# Altium schematic symbol library MCU_ST_STM32F3.SchLib: 93 symbols (part 2 of 3)
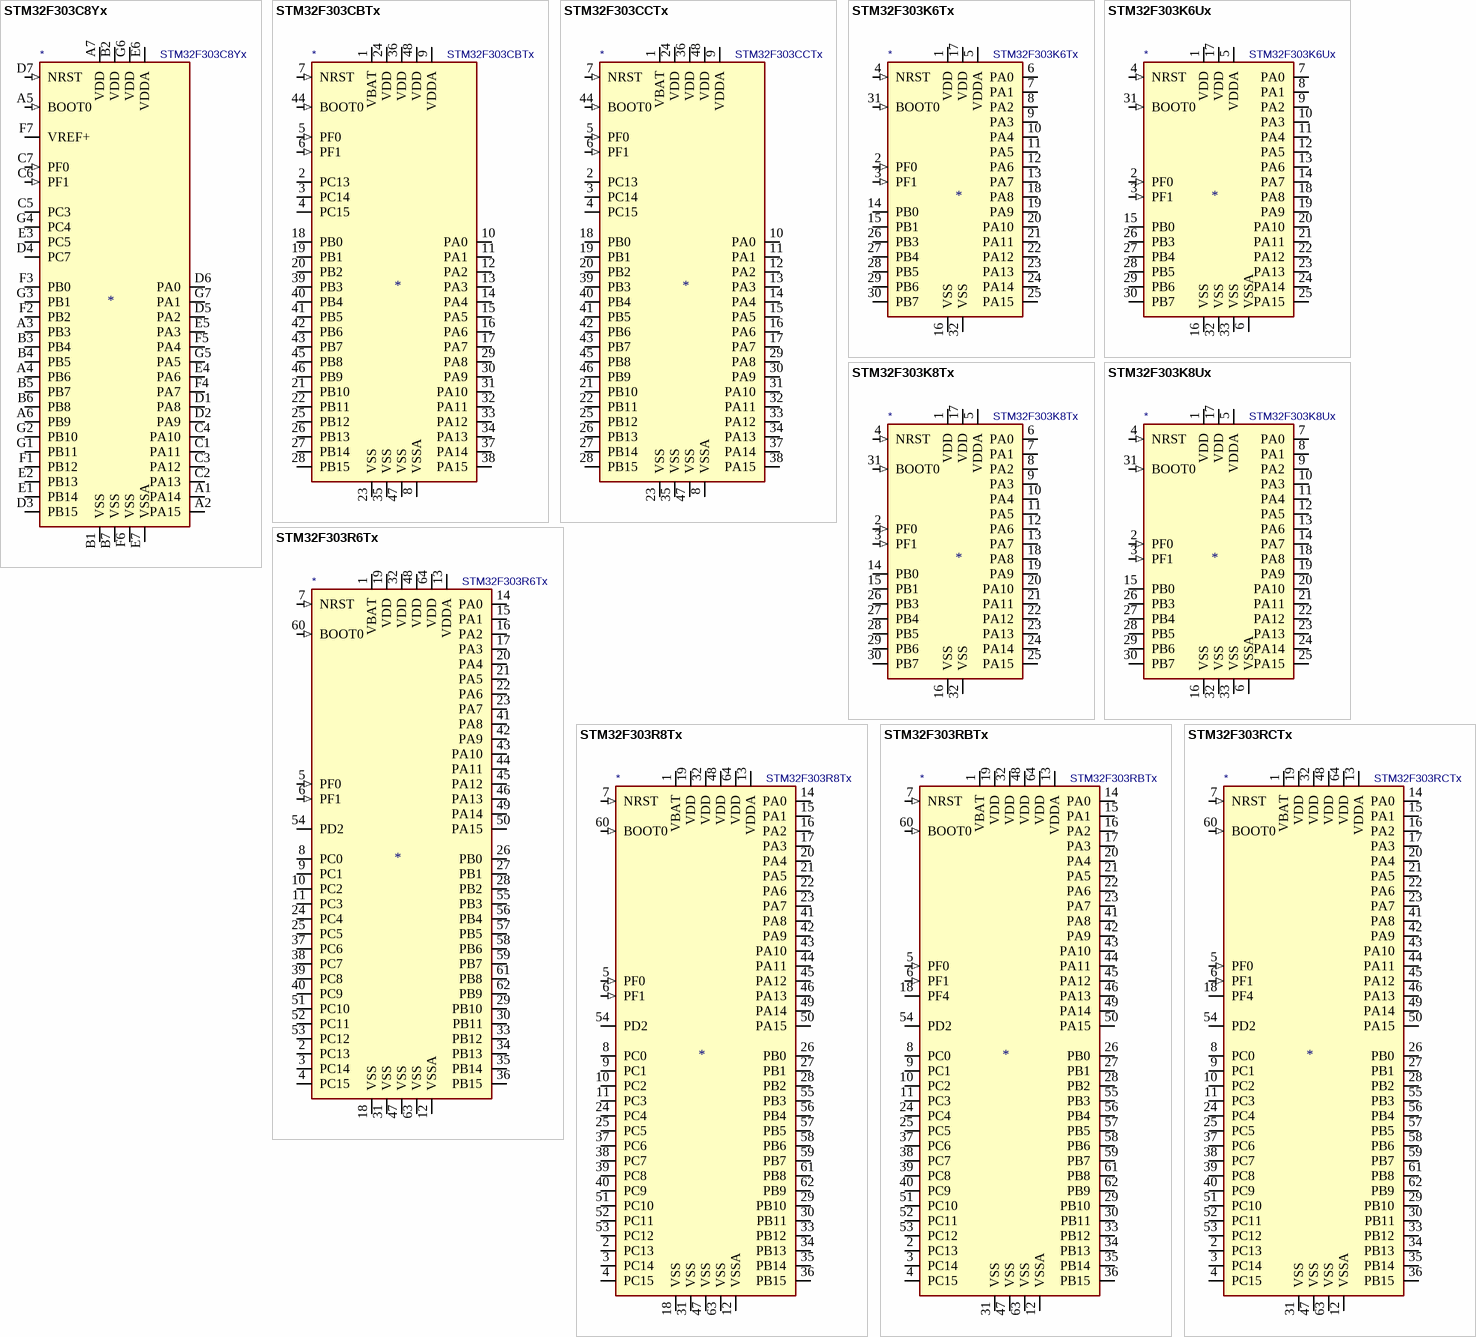
[diagram p12: symbols STM32F303C8Yx to STM32F303RCTx]

## STM32F303K8Tx
designator *  value STM32F303K8Tx
ki_keywords: ARM Cortex-M4 STM32F3 STM32F303; ki_description: ARM Cortex-M4 MCU, 64KB flash, 12KB RAM, 72MHz, 2-3.6V, 25 GPIO, LQFP-32; ki_fp_filters: LQFP*7x7mm*P0.8mm*; Footprint: Package_QFP:LQFP-32_7x7mm_P0.8mm; Supplier: http://www.st.com/st-web-ui/static/active/en/resource/technical/document/datasheet/DM00092070.pdf
footprint LQFP-32_7x7mm_P0.8mm
pins: 1 VDD (power), 2 PF0 (in), 3 PF1 (in), 4 NRST (in), 5 VDDA (power), 6 PA0 (io), 7 PA1 (io), 8 PA2 (io), 9 PA3 (io), 10 PA4 (io), 11 PA5 (io), 12 PA6 (io), 13 PA7 (io), 14 PB0 (io), 15 PB1 (io), 16 VSS (power), 17 VDD (power), 18 PA8 (io), 19 PA9 (io), 20 PA10 (io), 21 PA11 (io), 22 PA12 (io), 23 PA13 (io), 24 PA14 (io), 25 PA15 (io), 26 PB3 (io), 27 PB4 (io), 28 PB5 (io), 29 PB6 (io), 30 PB7 (io), 31 BOOT0 (in), 32 VSS (power)

## STM32F303K8Ux
designator *  value STM32F303K8Ux
ki_keywords: ARM Cortex-M4 STM32F3 STM32F3x3; ki_description: ARM Cortex-M4 MCU, 64KB flash, 12KB RAM, 24 GPIO, UFQFPN-32; ki_fp_filters: QFN*1EP*5x5mm*P0.5mm*; Footprint: Package_DFN_QFN:QFN-32-1EP_5x5mm_P0.5mm_EP3.45x3.45mm; Supplier: http://www.st.com/st-web-ui/static/active/en/resource/technical/document/datasheet/DM00092070.pdf
footprint QFN-32-1EP_5x5mm_P0.5mm_EP3.45x3.45mm
pins: 1 VDD (power), 2 PF0 (in), 3 PF1 (in), 4 NRST (in), 5 VDDA (power), 6 VSSA (power), 7 PA0 (io), 8 PA1 (io), 9 PA2 (io), 10 PA3 (io), 11 PA4 (io), 12 PA5 (io), 13 PA6 (io), 14 PA7 (io), 15 PB0 (io), 16 VSS (power), 17 VDD (power), 18 PA8 (io), 19 PA9 (io), 20 PA10 (io), 21 PA11 (io), 22 PA12 (io), 23 PA13 (io), 24 PA14 (io), 25 PA15 (io), 26 PB3 (io), 27 PB4 (io), 28 PB5 (io), 29 PB6 (io), 30 PB7 (io), 31 BOOT0 (in), 32 VSS (power), 33 VSS (power)

## STM32F303R6Tx
designator *  value STM32F303R6Tx
ki_keywords: ARM Cortex-M4 STM32F3 STM32F303; ki_description: ARM Cortex-M4 MCU, 32KB flash, 12KB RAM, 72MHz, 2-3.6V, 51 GPIO, LQFP-64; ki_fp_filters: LQFP*10x10mm*P0.5mm*; Footprint: Package_QFP:LQFP-64_10x10mm_P0.5mm; Supplier: http://www.st.com/st-web-ui/static/active/en/resource/technical/document/datasheet/DM00092070.pdf
footprint LQFP-64_10x10mm_P0.5mm
pins: 1 VBAT (power), 2 PC13 (io), 3 PC14 (io), 4 PC15 (io), 5 PF0 (in), 6 PF1 (in), 7 NRST (in), 8 PC0 (io), 9 PC1 (io), 10 PC2 (io), 11 PC3 (io), 12 VSSA (power), 13 VDDA (power), 14 PA0 (io), 15 PA1 (io), 16 PA2 (io), 17 PA3 (io), 18 VSS (power), 19 VDD (power), 20 PA4 (io), 21 PA5 (io), 22 PA6 (io), 23 PA7 (io), 24 PC4 (io), 25 PC5 (io), 26 PB0 (io), 27 PB1 (io), 28 PB2 (io), 29 PB10 (io), 30 PB11 (io), 31 VSS (power), 32 VDD (power), 33 PB12 (io), 34 PB13 (io), 35 PB14 (io), 36 PB15 (io), 37 PC6 (io), 38 PC7 (io), 39 PC8 (io), 40 PC9 (io), 41 PA8 (io), 42 PA9 (io), 43 PA10 (io), 44 PA11 (io), 45 PA12 (io), 46 PA13 (io), 47 VSS (power), 48 VDD (power), 49 PA14 (io), 50 PA15 (io), 51 PC10 (io), 52 PC11 (io), 53 PC12 (io), 54 PD2 (io), 55 PB3 (io), 56 PB4 (io), 57 PB5 (io), 58 PB6 (io), 59 PB7 (io), 60 BOOT0 (in), 61 PB8 (io), 62 PB9 (io), 63 VSS (power), 64 VDD (power)

## STM32F303R8Tx
designator *  value STM32F303R8Tx
ki_keywords: ARM Cortex-M4 STM32F3 STM32F303; ki_description: ARM Cortex-M4 MCU, 64KB flash, 12KB RAM, 72MHz, 2-3.6V, 51 GPIO, LQFP-64; ki_fp_filters: LQFP*10x10mm*P0.5mm*; Footprint: Package_QFP:LQFP-64_10x10mm_P0.5mm; Supplier: http://www.st.com/st-web-ui/static/active/en/resource/technical/document/datasheet/DM00092070.pdf
footprint LQFP-64_10x10mm_P0.5mm
pins: 1 VBAT (power), 2 PC13 (io), 3 PC14 (io), 4 PC15 (io), 5 PF0 (in), 6 PF1 (in), 7 NRST (in), 8 PC0 (io), 9 PC1 (io), 10 PC2 (io), 11 PC3 (io), 12 VSSA (power), 13 VDDA (power), 14 PA0 (io), 15 PA1 (io), 16 PA2 (io), 17 PA3 (io), 18 VSS (power), 19 VDD (power), 20 PA4 (io), 21 PA5 (io), 22 PA6 (io), 23 PA7 (io), 24 PC4 (io), 25 PC5 (io), 26 PB0 (io), 27 PB1 (io), 28 PB2 (io), 29 PB10 (io), 30 PB11 (io), 31 VSS (power), 32 VDD (power), 33 PB12 (io), 34 PB13 (io), 35 PB14 (io), 36 PB15 (io), 37 PC6 (io), 38 PC7 (io), 39 PC8 (io), 40 PC9 (io), 41 PA8 (io), 42 PA9 (io), 43 PA10 (io), 44 PA11 (io), 45 PA12 (io), 46 PA13 (io), 47 VSS (power), 48 VDD (power), 49 PA14 (io), 50 PA15 (io), 51 PC10 (io), 52 PC11 (io), 53 PC12 (io), 54 PD2 (io), 55 PB3 (io), 56 PB4 (io), 57 PB5 (io), 58 PB6 (io), 59 PB7 (io), 60 BOOT0 (in), 61 PB8 (io), 62 PB9 (io), 63 VSS (power), 64 VDD (power)

## STM32F303RBTx
designator *  value STM32F303RBTx
ki_keywords: ARM Cortex-M4 STM32F3 STM32F303; ki_description: ARM Cortex-M4 MCU, 128KB flash, 32KB RAM, 72MHz, 2-3.6V, 52 GPIO, LQFP-64; ki_fp_filters: LQFP*10x10mm*P0.5mm*; Footprint: Package_QFP:LQFP-64_10x10mm_P0.5mm; Supplier: http://www.st.com/st-web-ui/static/active/en/resource/technical/document/datasheet/DM00058181.pdf
footprint LQFP-64_10x10mm_P0.5mm
pins: 1 VBAT (power), 2 PC13 (io), 3 PC14 (io), 4 PC15 (io), 5 PF0 (in), 6 PF1 (in), 7 NRST (in), 8 PC0 (io), 9 PC1 (io), 10 PC2 (io), 11 PC3 (io), 12 VSSA (power), 13 VDDA (power), 14 PA0 (io), 15 PA1 (io), 16 PA2 (io), 17 PA3 (io), 18 PF4 (io), 19 VDD (power), 20 PA4 (io), 21 PA5 (io), 22 PA6 (io), 23 PA7 (io), 24 PC4 (io), 25 PC5 (io), 26 PB0 (io), 27 PB1 (io), 28 PB2 (io), 29 PB10 (io), 30 PB11 (io), 31 VSS (power), 32 VDD (power), 33 PB12 (io), 34 PB13 (io), 35 PB14 (io), 36 PB15 (io), 37 PC6 (io), 38 PC7 (io), 39 PC8 (io), 40 PC9 (io), 41 PA8 (io), 42 PA9 (io), 43 PA10 (io), 44 PA11 (io), 45 PA12 (io), 46 PA13 (io), 47 VSS (power), 48 VDD (power), 49 PA14 (io), 50 PA15 (io), 51 PC10 (io), 52 PC11 (io), 53 PC12 (io), 54 PD2 (io), 55 PB3 (io), 56 PB4 (io), 57 PB5 (io), 58 PB6 (io), 59 PB7 (io), 60 BOOT0 (in), 61 PB8 (io), 62 PB9 (io), 63 VSS (power), 64 VDD (power)

## STM32F303RCTx
designator *  value STM32F303RCTx
ki_keywords: ARM Cortex-M4 STM32F3 STM32F303; ki_description: ARM Cortex-M4 MCU, 256KB flash, 40KB RAM, 72MHz, 2-3.6V, 52 GPIO, LQFP-64; ki_fp_filters: LQFP*10x10mm*P0.5mm*; Footprint: Package_QFP:LQFP-64_10x10mm_P0.5mm; Supplier: http://www.st.com/st-web-ui/static/active/en/resource/technical/document/datasheet/DM00058181.pdf
footprint LQFP-64_10x10mm_P0.5mm
pins: 1 VBAT (power), 2 PC13 (io), 3 PC14 (io), 4 PC15 (io), 5 PF0 (in), 6 PF1 (in), 7 NRST (in), 8 PC0 (io), 9 PC1 (io), 10 PC2 (io), 11 PC3 (io), 12 VSSA (power), 13 VDDA (power), 14 PA0 (io), 15 PA1 (io), 16 PA2 (io), 17 PA3 (io), 18 PF4 (io), 19 VDD (power), 20 PA4 (io), 21 PA5 (io), 22 PA6 (io), 23 PA7 (io), 24 PC4 (io), 25 PC5 (io), 26 PB0 (io), 27 PB1 (io), 28 PB2 (io), 29 PB10 (io), 30 PB11 (io), 31 VSS (power), 32 VDD (power), 33 PB12 (io), 34 PB13 (io), 35 PB14 (io), 36 PB15 (io), 37 PC6 (io), 38 PC7 (io), 39 PC8 (io), 40 PC9 (io), 41 PA8 (io), 42 PA9 (io), 43 PA10 (io), 44 PA11 (io), 45 PA12 (io), 46 PA13 (io), 47 VSS (power), 48 VDD (power), 49 PA14 (io), 50 PA15 (io), 51 PC10 (io), 52 PC11 (io), 53 PC12 (io), 54 PD2 (io), 55 PB3 (io), 56 PB4 (io), 57 PB5 (io), 58 PB6 (io), 59 PB7 (io), 60 BOOT0 (in), 61 PB8 (io), 62 PB9 (io), 63 VSS (power), 64 VDD (power)

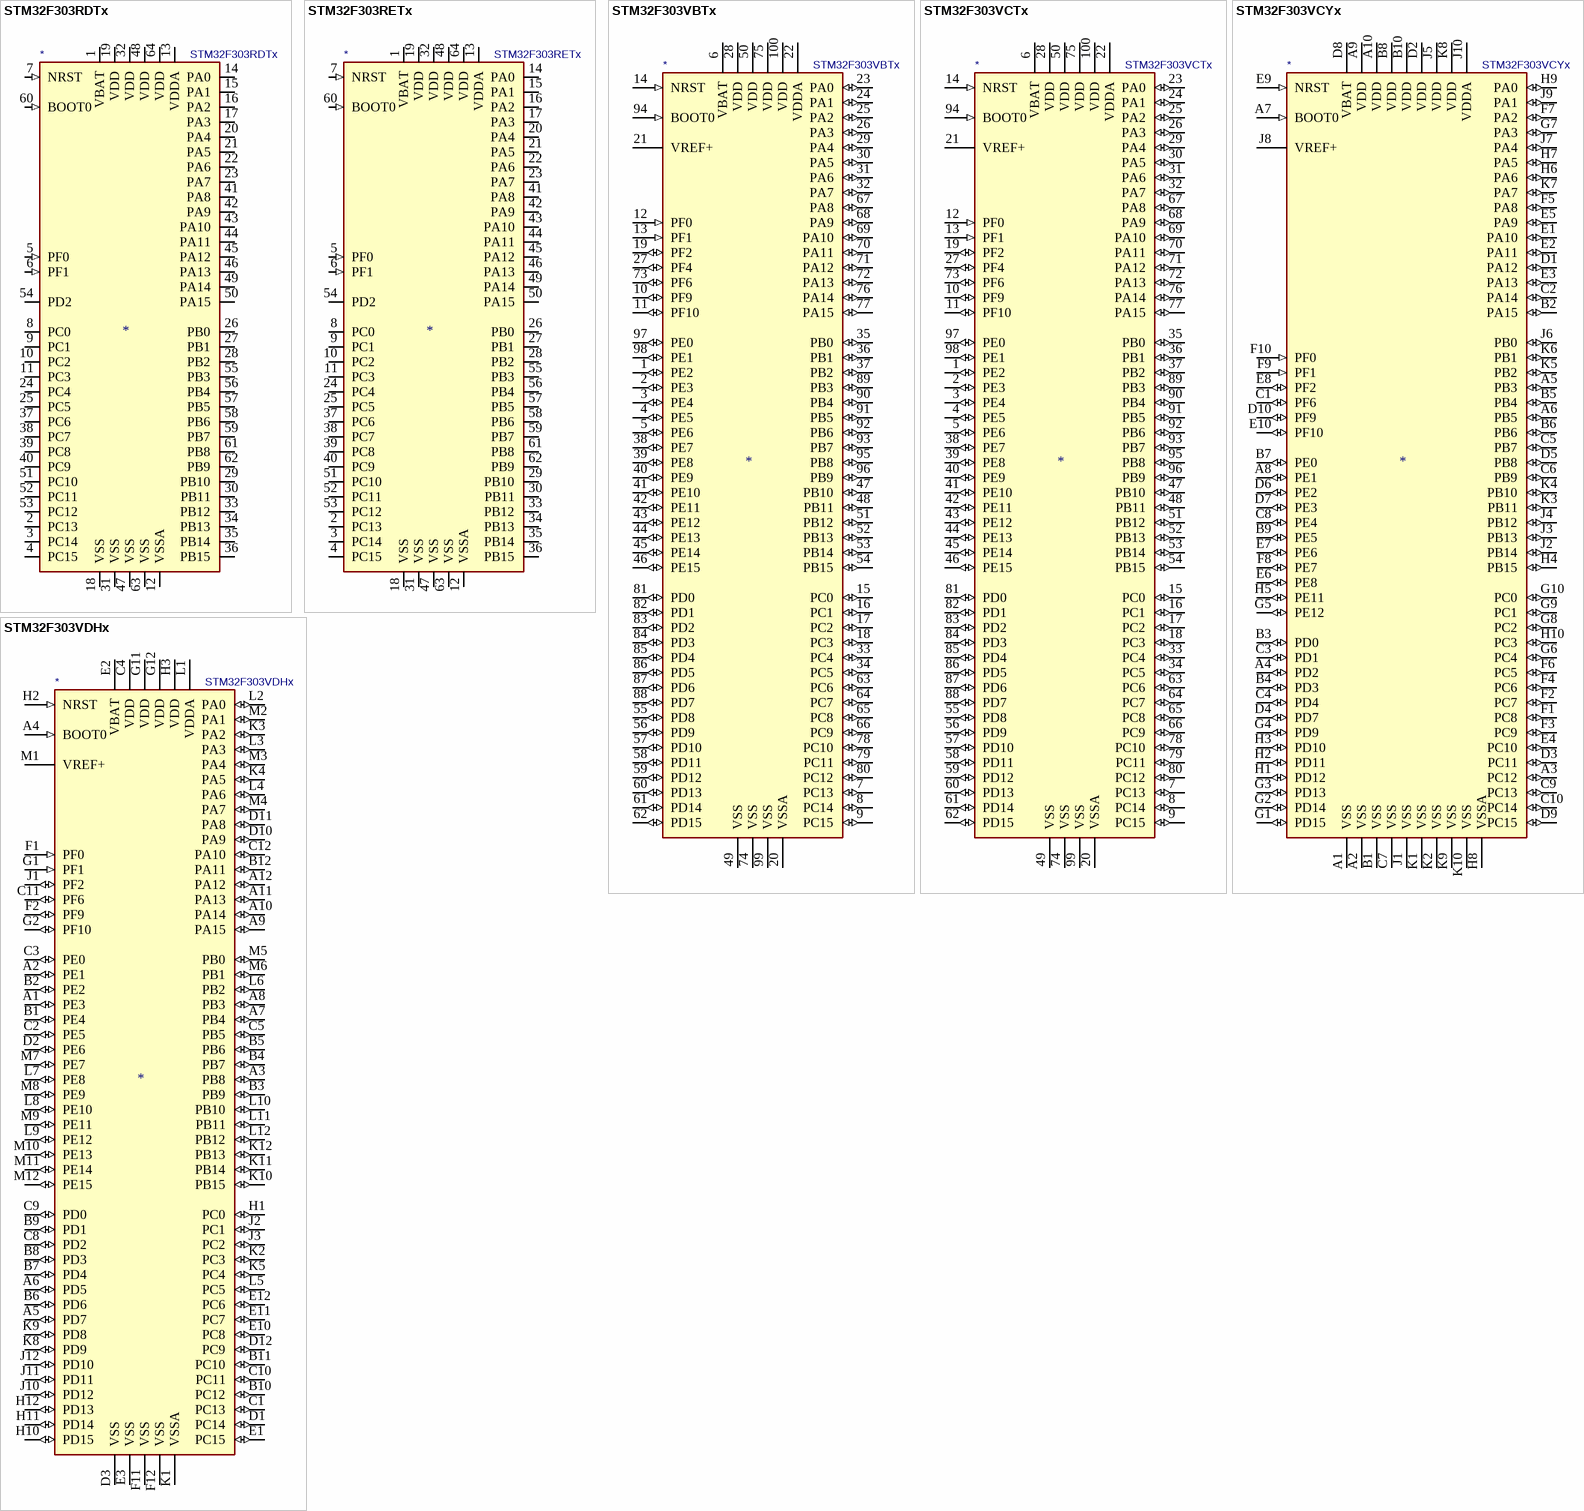
[diagram p5: symbols STM32F303RDTx to STM32F303VDHx]

## STM32F303RDTx
designator *  value STM32F303RDTx
ki_keywords: ARM Cortex-M4 STM32F3 STM32F303; ki_description: ARM Cortex-M4 MCU, 384KB flash, 64KB RAM, 72MHz, 2-3.6V, 51 GPIO, LQFP-64; ki_fp_filters: LQFP*10x10mm*P0.5mm*; Footprint: Package_QFP:LQFP-64_10x10mm_P0.5mm; Supplier: http://www.st.com/st-web-ui/static/active/en/resource/technical/document/datasheet/DM00118585.pdf
footprint LQFP-64_10x10mm_P0.5mm
pins: 1 VBAT (power), 2 PC13 (io), 3 PC14 (io), 4 PC15 (io), 5 PF0 (in), 6 PF1 (in), 7 NRST (in), 8 PC0 (io), 9 PC1 (io), 10 PC2 (io), 11 PC3 (io), 12 VSSA (power), 13 VDDA (power), 14 PA0 (io), 15 PA1 (io), 16 PA2 (io), 17 PA3 (io), 18 VSS (power), 19 VDD (power), 20 PA4 (io), 21 PA5 (io), 22 PA6 (io), 23 PA7 (io), 24 PC4 (io), 25 PC5 (io), 26 PB0 (io), 27 PB1 (io), 28 PB2 (io), 29 PB10 (io), 30 PB11 (io), 31 VSS (power), 32 VDD (power), 33 PB12 (io), 34 PB13 (io), 35 PB14 (io), 36 PB15 (io), 37 PC6 (io), 38 PC7 (io), 39 PC8 (io), 40 PC9 (io), 41 PA8 (io), 42 PA9 (io), 43 PA10 (io), 44 PA11 (io), 45 PA12 (io), 46 PA13 (io), 47 VSS (power), 48 VDD (power), 49 PA14 (io), 50 PA15 (io), 51 PC10 (io), 52 PC11 (io), 53 PC12 (io), 54 PD2 (io), 55 PB3 (io), 56 PB4 (io), 57 PB5 (io), 58 PB6 (io), 59 PB7 (io), 60 BOOT0 (in), 61 PB8 (io), 62 PB9 (io), 63 VSS (power), 64 VDD (power)

## STM32F303RETx
designator *  value STM32F303RETx
ki_keywords: ARM Cortex-M4 STM32F3 STM32F303; ki_description: ARM Cortex-M4 MCU, 512KB flash, 64KB RAM, 72MHz, 2-3.6V, 51 GPIO, LQFP-64; ki_fp_filters: LQFP*10x10mm*P0.5mm*; Footprint: Package_QFP:LQFP-64_10x10mm_P0.5mm; Supplier: http://www.st.com/st-web-ui/static/active/en/resource/technical/document/datasheet/DM00118585.pdf
footprint LQFP-64_10x10mm_P0.5mm
pins: 1 VBAT (power), 2 PC13 (io), 3 PC14 (io), 4 PC15 (io), 5 PF0 (in), 6 PF1 (in), 7 NRST (in), 8 PC0 (io), 9 PC1 (io), 10 PC2 (io), 11 PC3 (io), 12 VSSA (power), 13 VDDA (power), 14 PA0 (io), 15 PA1 (io), 16 PA2 (io), 17 PA3 (io), 18 VSS (power), 19 VDD (power), 20 PA4 (io), 21 PA5 (io), 22 PA6 (io), 23 PA7 (io), 24 PC4 (io), 25 PC5 (io), 26 PB0 (io), 27 PB1 (io), 28 PB2 (io), 29 PB10 (io), 30 PB11 (io), 31 VSS (power), 32 VDD (power), 33 PB12 (io), 34 PB13 (io), 35 PB14 (io), 36 PB15 (io), 37 PC6 (io), 38 PC7 (io), 39 PC8 (io), 40 PC9 (io), 41 PA8 (io), 42 PA9 (io), 43 PA10 (io), 44 PA11 (io), 45 PA12 (io), 46 PA13 (io), 47 VSS (power), 48 VDD (power), 49 PA14 (io), 50 PA15 (io), 51 PC10 (io), 52 PC11 (io), 53 PC12 (io), 54 PD2 (io), 55 PB3 (io), 56 PB4 (io), 57 PB5 (io), 58 PB6 (io), 59 PB7 (io), 60 BOOT0 (in), 61 PB8 (io), 62 PB9 (io), 63 VSS (power), 64 VDD (power)

## STM32F303VBTx
designator *  value STM32F303VBTx
ki_keywords: ARM Cortex-M4 STM32F3 STM32F303; ki_description: ARM Cortex-M4 MCU, 128KB flash, 32KB RAM, 72MHz, 2-3.6V, 87 GPIO, LQFP-100; ki_fp_filters: LQFP*14x14mm*P0.5mm*; Footprint: Package_QFP:LQFP-100_14x14mm_P0.5mm; Supplier: http://www.st.com/st-web-ui/static/active/en/resource/technical/document/datasheet/DM00058181.pdf
footprint LQFP-100_14x14mm_P0.5mm
pins: 1 PE2 (io), 2 PE3 (io), 3 PE4 (io), 4 PE5 (io), 5 PE6 (io), 6 VBAT (power), 7 PC13 (io), 8 PC14 (io), 9 PC15 (io), 10 PF9 (io), 11 PF10 (io), 12 PF0 (in), 13 PF1 (in), 14 NRST (in), 15 PC0 (io), 16 PC1 (io), 17 PC2 (io), 18 PC3 (io), 19 PF2 (io), 20 VSSA (power), 21 VREF+ (power), 22 VDDA (power), 23 PA0 (io), 24 PA1 (io), 25 PA2 (io), 26 PA3 (io), 27 PF4 (io), 28 VDD (power), 29 PA4 (io), 30 PA5 (io), 31 PA6 (io), 32 PA7 (io), 33 PC4 (io), 34 PC5 (io), 35 PB0 (io), 36 PB1 (io), 37 PB2 (io), 38 PE7 (io), 39 PE8 (io), 40 PE9 (io), 41 PE10 (io), 42 PE11 (io), 43 PE12 (io), 44 PE13 (io), 45 PE14 (io), 46 PE15 (io), 47 PB10 (io), 48 PB11 (io), 49 VSS (power), 50 VDD (power), 51 PB12 (io), 52 PB13 (io), 53 PB14 (io), 54 PB15 (io), 55 PD8 (io), 56 PD9 (io), 57 PD10 (io), 58 PD11 (io), 59 PD12 (io), 60 PD13 (io), 61 PD14 (io), 62 PD15 (io), 63 PC6 (io), 64 PC7 (io), 65 PC8 (io), 66 PC9 (io), 67 PA8 (io), 68 PA9 (io), 69 PA10 (io), 70 PA11 (io), 71 PA12 (io), 72 PA13 (io), 73 PF6 (io), 74 VSS (power), 75 VDD (power), 76 PA14 (io), 77 PA15 (io), 78 PC10 (io), 79 PC11 (io), 80 PC12 (io), 81 PD0 (io), 82 PD1 (io), 83 PD2 (io), 84 PD3 (io), 85 PD4 (io), 86 PD5 (io), 87 PD6 (io), 88 PD7 (io), 89 PB3 (io), 90 PB4 (io), 91 PB5 (io), 92 PB6 (io), 93 PB7 (io), 94 BOOT0 (in), 95 PB8 (io), 96 PB9 (io), 97 PE0 (io), 98 PE1 (io), 99 VSS (power), 100 VDD (power)

## STM32F303VCTx
designator *  value STM32F303VCTx
ki_keywords: ARM Cortex-M4 STM32F3 STM32F303; ki_description: ARM Cortex-M4 MCU, 256KB flash, 40KB RAM, 72MHz, 2-3.6V, 87 GPIO, LQFP-100; ki_fp_filters: LQFP*14x14mm*P0.5mm*; Footprint: Package_QFP:LQFP-100_14x14mm_P0.5mm; Supplier: http://www.st.com/st-web-ui/static/active/en/resource/technical/document/datasheet/DM00058181.pdf
footprint LQFP-100_14x14mm_P0.5mm
pins: 1 PE2 (io), 2 PE3 (io), 3 PE4 (io), 4 PE5 (io), 5 PE6 (io), 6 VBAT (power), 7 PC13 (io), 8 PC14 (io), 9 PC15 (io), 10 PF9 (io), 11 PF10 (io), 12 PF0 (in), 13 PF1 (in), 14 NRST (in), 15 PC0 (io), 16 PC1 (io), 17 PC2 (io), 18 PC3 (io), 19 PF2 (io), 20 VSSA (power), 21 VREF+ (power), 22 VDDA (power), 23 PA0 (io), 24 PA1 (io), 25 PA2 (io), 26 PA3 (io), 27 PF4 (io), 28 VDD (power), 29 PA4 (io), 30 PA5 (io), 31 PA6 (io), 32 PA7 (io), 33 PC4 (io), 34 PC5 (io), 35 PB0 (io), 36 PB1 (io), 37 PB2 (io), 38 PE7 (io), 39 PE8 (io), 40 PE9 (io), 41 PE10 (io), 42 PE11 (io), 43 PE12 (io), 44 PE13 (io), 45 PE14 (io), 46 PE15 (io), 47 PB10 (io), 48 PB11 (io), 49 VSS (power), 50 VDD (power), 51 PB12 (io), 52 PB13 (io), 53 PB14 (io), 54 PB15 (io), 55 PD8 (io), 56 PD9 (io), 57 PD10 (io), 58 PD11 (io), 59 PD12 (io), 60 PD13 (io), 61 PD14 (io), 62 PD15 (io), 63 PC6 (io), 64 PC7 (io), 65 PC8 (io), 66 PC9 (io), 67 PA8 (io), 68 PA9 (io), 69 PA10 (io), 70 PA11 (io), 71 PA12 (io), 72 PA13 (io), 73 PF6 (io), 74 VSS (power), 75 VDD (power), 76 PA14 (io), 77 PA15 (io), 78 PC10 (io), 79 PC11 (io), 80 PC12 (io), 81 PD0 (io), 82 PD1 (io), 83 PD2 (io), 84 PD3 (io), 85 PD4 (io), 86 PD5 (io), 87 PD6 (io), 88 PD7 (io), 89 PB3 (io), 90 PB4 (io), 91 PB5 (io), 92 PB6 (io), 93 PB7 (io), 94 BOOT0 (in), 95 PB8 (io), 96 PB9 (io), 97 PE0 (io), 98 PE1 (io), 99 VSS (power), 100 VDD (power)

## STM32F303VCYx
designator *  value STM32F303VCYx
ki_keywords: ARM Cortex-M4 STM32F3 STM32F303; ki_description: ARM Cortex-M4 MCU, 256KB flash, 40KB RAM, 72MHz, 2-3.6V, 78 GPIO, WLCSP-100; ki_fp_filters: ST_WLCSP*Die422*; Footprint: Package_CSP:ST_WLCSP-100_Die422; Supplier: http://www.st.com/st-web-ui/static/active/en/resource/technical/document/datasheet/DM00058181.pdf
footprint ST_WLCSP-100_Die422
pins: A1 VSS (power), A2 VSS (power), A3 PC12 (io), A4 PD2 (io), A5 PB3 (io), A6 PB5 (io), A7 BOOT0 (in), A8 PE1 (io), A9 VDD (power), A10 VDD (power), B1 VSS (power), B2 PA15 (io), B3 PD0 (io), B4 PD3 (io), B5 PB4 (io), B6 PB6 (io), B7 PE0 (io), B8 VDD (power), B9 PE5 (io), B10 VDD (power), C1 PF6 (io), C2 PA14 (io), C3 PD1 (io), C4 PD4 (io), C5 PB7 (io), C6 PB9 (io), C7 VSS (power), C8 PE4 (io), C9 PC13 (io), C10 PC14 (io), D1 PA12 (io), D2 VDD (power), D3 PC11 (io), D4 PD7 (io), D5 PB8 (io), D6 PE2 (io), D7 PE3 (io), D8 VBAT (power), D9 PC15 (io), D10 PF9 (io), E1 PA10 (io), E2 PA11 (io), E3 PA13 (io), E4 PC10 (io), E5 PA9 (io), E6 PE8 (io), E7 PE6 (io), E8 PF2 (io), E9 NRST (in), E10 PF10 (io), F1 PC8 (io), F2 PC7 (io), F3 PC9 (io), F4 PC6 (io), F5 PA8 (io), F6 PC5 (io), F7 PA2 (io), F8 PE7 (io), F9 PF1 (in), F10 PF0 (in), G1 PD15 (io), G2 PD14 (io), G3 PD13 (io), G4 PD9 (io), G5 PE12 (io), G6 PC4 (io), G7 PA3 (io), G8 PC2 (io), G9 PC1 (io), G10 PC0 (io), H1 PD12 (io), H2 PD11 (io), H3 PD10 (io), H4 PB15 (io), H5 PE11 (io), H6 PA6 (io), H7 PA5 (io), H8 VSSA (power), H9 PA0 (io), H10 PC3 (io), J1 VSS (power), J2 PB14 (io), J3 PB13 (io), J4 PB12 (io), J5 VDD (power), J6 PB0 (io), J7 PA4 (io), J8 VREF+ (power), J9 PA1 (io), J10 VDDA (power), K1 VSS (power), K2 VSS (power), K3 PB11 (io), K4 PB10 (io), K5 PB2 (io), K6 PB1 (io), K7 PA7 (io), K8 VDD (power), K9 VSS (power), K10 VSS (power)

## STM32F303VDHx
designator *  value STM32F303VDHx
ki_keywords: ARM Cortex-M4 STM32F3 STM32F303; ki_description: ARM Cortex-M4 MCU, 384KB flash, 64KB RAM, 72MHz, 2-3.6V, 86 GPIO, UFBGA-100; ki_fp_filters: UFBGA*7x7mm*Layout12x12*P0.5mm*; Footprint: Package_BGA:UFBGA-100_7x7mm_Layout12x12_P0.5mm; Supplier: http://www.st.com/st-web-ui/static/active/en/resource/technical/document/datasheet/DM00118585.pdf
footprint UFBGA-100_7x7mm_Layout12x12_P0.5mm
pins: A1 PE3 (io), A2 PE1 (io), A3 PB8 (io), A4 BOOT0 (in), A5 PD7 (io), A6 PD5 (io), A7 PB4 (io), A8 PB3 (io), A9 PA15 (io), A10 PA14 (io), A11 PA13 (io), A12 PA12 (io), B1 PE4 (io), B2 PE2 (io), B3 PB9 (io), B4 PB7 (io), B5 PB6 (io), B6 PD6 (io), B7 PD4 (io), B8 PD3 (io), B9 PD1 (io), B10 PC12 (io), B11 PC10 (io), B12 PA11 (io), C1 PC13 (io), C2 PE5 (io), C3 PE0 (io), C4 VDD (power), C5 PB5 (io), C8 PD2 (io), C9 PD0 (io), C10 PC11 (io), C11 PF6 (io), C12 PA10 (io), D1 PC14 (io), D2 PE6 (io), D3 VSS (power), D10 PA9 (io), D11 PA8 (io), D12 PC9 (io), E1 PC15 (io), E2 VBAT (power), E3 VSS (power), E10 PC8 (io), E11 PC7 (io), E12 PC6 (io), F1 PF0 (in), F2 PF9 (io), F11 VSS (power), F12 VSS (power), G1 PF1 (in), G2 PF10 (io), G11 VDD (power), G12 VDD (power), H1 PC0 (io), H2 NRST (in), H3 VDD (power), H10 PD15 (io), H11 PD14 (io), H12 PD13 (io), J1 PF2 (io), J2 PC1 (io), J3 PC2 (io), J10 PD12 (io), J11 PD11 (io), J12 PD10 (io), K1 VSSA (power), K2 PC3 (io), K3 PA2 (io), K4 PA5 (io), K5 PC4 (io), K8 PD9 (io), K9 PD8 (io), K10 PB15 (io), K11 PB14 (io), K12 PB13 (io), L1 VDDA (power), L2 PA0 (io), L3 PA3 (io), L4 PA6 (io), L5 PC5 (io), L6 PB2 (io), L7 PE8 (io), L8 PE10 (io), L9 PE12 (io), L10 PB10 (io), L11 PB11 (io), L12 PB12 (io), M1 VREF+ (power), M2 PA1 (io), M3 PA4 (io), M4 PA7 (io), M5 PB0 (io), M6 PB1 (io), M7 PE7 (io), M8 PE9 (io), M9 PE11 (io), M10 PE13 (io), M11 PE14 (io), M12 PE15 (io)

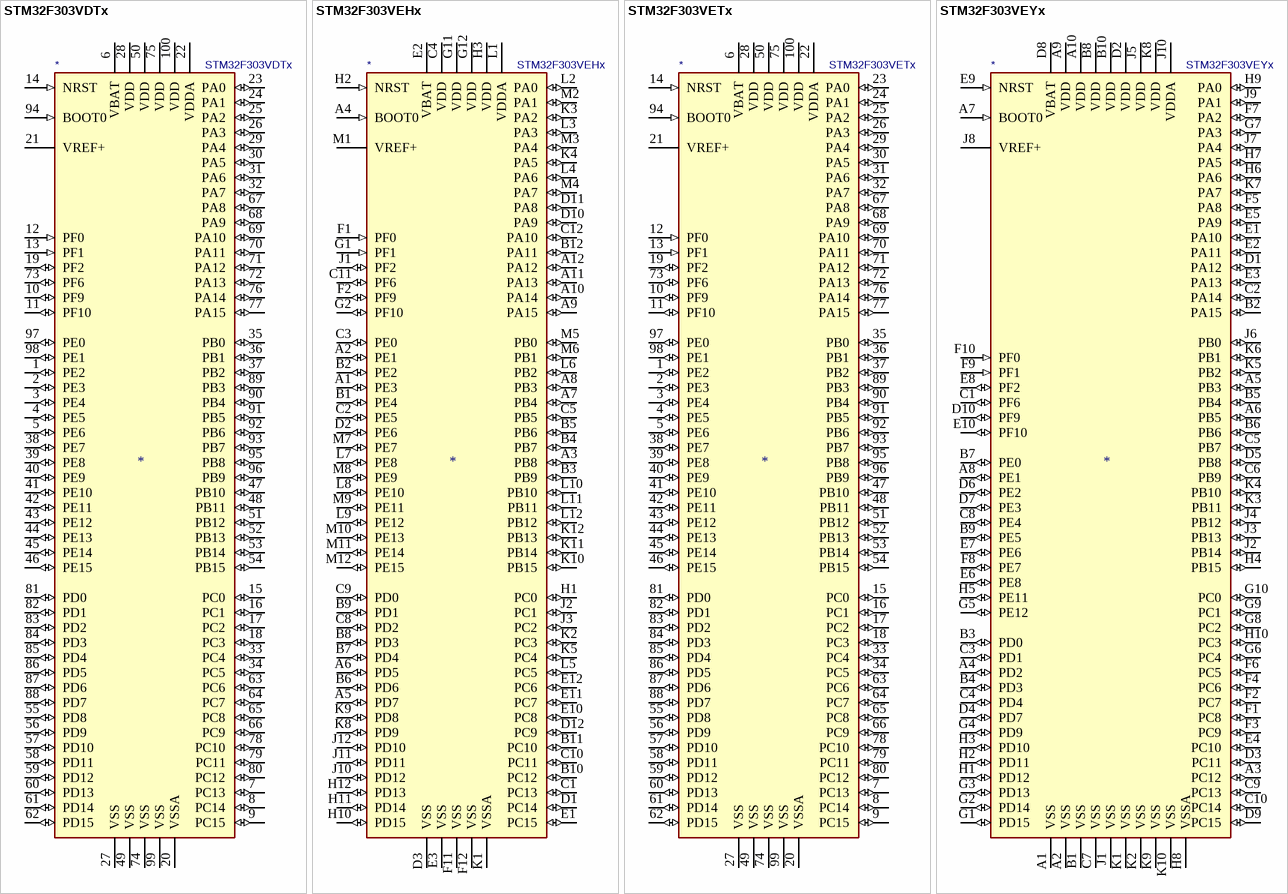
[diagram p6: symbols STM32F303VDTx to STM32F303VEYx]

## STM32F303VDTx
designator *  value STM32F303VDTx
ki_keywords: ARM Cortex-M4 STM32F3 STM32F303; ki_description: ARM Cortex-M4 MCU, 384KB flash, 64KB RAM, 72MHz, 2-3.6V, 86 GPIO, LQFP-100; ki_fp_filters: LQFP*14x14mm*P0.5mm*; Footprint: Package_QFP:LQFP-100_14x14mm_P0.5mm; Supplier: http://www.st.com/st-web-ui/static/active/en/resource/technical/document/datasheet/DM00118585.pdf
footprint LQFP-100_14x14mm_P0.5mm
pins: 1 PE2 (io), 2 PE3 (io), 3 PE4 (io), 4 PE5 (io), 5 PE6 (io), 6 VBAT (power), 7 PC13 (io), 8 PC14 (io), 9 PC15 (io), 10 PF9 (io), 11 PF10 (io), 12 PF0 (in), 13 PF1 (in), 14 NRST (in), 15 PC0 (io), 16 PC1 (io), 17 PC2 (io), 18 PC3 (io), 19 PF2 (io), 20 VSSA (power), 21 VREF+ (power), 22 VDDA (power), 23 PA0 (io), 24 PA1 (io), 25 PA2 (io), 26 PA3 (io), 27 VSS (power), 28 VDD (power), 29 PA4 (io), 30 PA5 (io), 31 PA6 (io), 32 PA7 (io), 33 PC4 (io), 34 PC5 (io), 35 PB0 (io), 36 PB1 (io), 37 PB2 (io), 38 PE7 (io), 39 PE8 (io), 40 PE9 (io), 41 PE10 (io), 42 PE11 (io), 43 PE12 (io), 44 PE13 (io), 45 PE14 (io), 46 PE15 (io), 47 PB10 (io), 48 PB11 (io), 49 VSS (power), 50 VDD (power), 51 PB12 (io), 52 PB13 (io), 53 PB14 (io), 54 PB15 (io), 55 PD8 (io), 56 PD9 (io), 57 PD10 (io), 58 PD11 (io), 59 PD12 (io), 60 PD13 (io), 61 PD14 (io), 62 PD15 (io), 63 PC6 (io), 64 PC7 (io), 65 PC8 (io), 66 PC9 (io), 67 PA8 (io), 68 PA9 (io), 69 PA10 (io), 70 PA11 (io), 71 PA12 (io), 72 PA13 (io), 73 PF6 (io), 74 VSS (power), 75 VDD (power), 76 PA14 (io), 77 PA15 (io), 78 PC10 (io), 79 PC11 (io), 80 PC12 (io), 81 PD0 (io), 82 PD1 (io), 83 PD2 (io), 84 PD3 (io), 85 PD4 (io), 86 PD5 (io), 87 PD6 (io), 88 PD7 (io), 89 PB3 (io), 90 PB4 (io), 91 PB5 (io), 92 PB6 (io), 93 PB7 (io), 94 BOOT0 (in), 95 PB8 (io), 96 PB9 (io), 97 PE0 (io), 98 PE1 (io), 99 VSS (power), 100 VDD (power)

## STM32F303VEHx
designator *  value STM32F303VEHx
ki_keywords: ARM Cortex-M4 STM32F3 STM32F303; ki_description: ARM Cortex-M4 MCU, 512KB flash, 64KB RAM, 72MHz, 2-3.6V, 86 GPIO, UFBGA-100; ki_fp_filters: UFBGA*7x7mm*Layout12x12*P0.5mm*; Footprint: Package_BGA:UFBGA-100_7x7mm_Layout12x12_P0.5mm; Supplier: http://www.st.com/st-web-ui/static/active/en/resource/technical/document/datasheet/DM00118585.pdf
footprint UFBGA-100_7x7mm_Layout12x12_P0.5mm
pins: A1 PE3 (io), A2 PE1 (io), A3 PB8 (io), A4 BOOT0 (in), A5 PD7 (io), A6 PD5 (io), A7 PB4 (io), A8 PB3 (io), A9 PA15 (io), A10 PA14 (io), A11 PA13 (io), A12 PA12 (io), B1 PE4 (io), B2 PE2 (io), B3 PB9 (io), B4 PB7 (io), B5 PB6 (io), B6 PD6 (io), B7 PD4 (io), B8 PD3 (io), B9 PD1 (io), B10 PC12 (io), B11 PC10 (io), B12 PA11 (io), C1 PC13 (io), C2 PE5 (io), C3 PE0 (io), C4 VDD (power), C5 PB5 (io), C8 PD2 (io), C9 PD0 (io), C10 PC11 (io), C11 PF6 (io), C12 PA10 (io), D1 PC14 (io), D2 PE6 (io), D3 VSS (power), D10 PA9 (io), D11 PA8 (io), D12 PC9 (io), E1 PC15 (io), E2 VBAT (power), E3 VSS (power), E10 PC8 (io), E11 PC7 (io), E12 PC6 (io), F1 PF0 (in), F2 PF9 (io), F11 VSS (power), F12 VSS (power), G1 PF1 (in), G2 PF10 (io), G11 VDD (power), G12 VDD (power), H1 PC0 (io), H2 NRST (in), H3 VDD (power), H10 PD15 (io), H11 PD14 (io), H12 PD13 (io), J1 PF2 (io), J2 PC1 (io), J3 PC2 (io), J10 PD12 (io), J11 PD11 (io), J12 PD10 (io), K1 VSSA (power), K2 PC3 (io), K3 PA2 (io), K4 PA5 (io), K5 PC4 (io), K8 PD9 (io), K9 PD8 (io), K10 PB15 (io), K11 PB14 (io), K12 PB13 (io), L1 VDDA (power), L2 PA0 (io), L3 PA3 (io), L4 PA6 (io), L5 PC5 (io), L6 PB2 (io), L7 PE8 (io), L8 PE10 (io), L9 PE12 (io), L10 PB10 (io), L11 PB11 (io), L12 PB12 (io), M1 VREF+ (power), M2 PA1 (io), M3 PA4 (io), M4 PA7 (io), M5 PB0 (io), M6 PB1 (io), M7 PE7 (io), M8 PE9 (io), M9 PE11 (io), M10 PE13 (io), M11 PE14 (io), M12 PE15 (io)

## STM32F303VETx
designator *  value STM32F303VETx
ki_keywords: ARM Cortex-M4 STM32F3 STM32F303; ki_description: ARM Cortex-M4 MCU, 512KB flash, 64KB RAM, 72MHz, 2-3.6V, 86 GPIO, LQFP-100; ki_fp_filters: LQFP*14x14mm*P0.5mm*; Footprint: Package_QFP:LQFP-100_14x14mm_P0.5mm; Supplier: http://www.st.com/st-web-ui/static/active/en/resource/technical/document/datasheet/DM00118585.pdf
footprint LQFP-100_14x14mm_P0.5mm
pins: 1 PE2 (io), 2 PE3 (io), 3 PE4 (io), 4 PE5 (io), 5 PE6 (io), 6 VBAT (power), 7 PC13 (io), 8 PC14 (io), 9 PC15 (io), 10 PF9 (io), 11 PF10 (io), 12 PF0 (in), 13 PF1 (in), 14 NRST (in), 15 PC0 (io), 16 PC1 (io), 17 PC2 (io), 18 PC3 (io), 19 PF2 (io), 20 VSSA (power), 21 VREF+ (power), 22 VDDA (power), 23 PA0 (io), 24 PA1 (io), 25 PA2 (io), 26 PA3 (io), 27 VSS (power), 28 VDD (power), 29 PA4 (io), 30 PA5 (io), 31 PA6 (io), 32 PA7 (io), 33 PC4 (io), 34 PC5 (io), 35 PB0 (io), 36 PB1 (io), 37 PB2 (io), 38 PE7 (io), 39 PE8 (io), 40 PE9 (io), 41 PE10 (io), 42 PE11 (io), 43 PE12 (io), 44 PE13 (io), 45 PE14 (io), 46 PE15 (io), 47 PB10 (io), 48 PB11 (io), 49 VSS (power), 50 VDD (power), 51 PB12 (io), 52 PB13 (io), 53 PB14 (io), 54 PB15 (io), 55 PD8 (io), 56 PD9 (io), 57 PD10 (io), 58 PD11 (io), 59 PD12 (io), 60 PD13 (io), 61 PD14 (io), 62 PD15 (io), 63 PC6 (io), 64 PC7 (io), 65 PC8 (io), 66 PC9 (io), 67 PA8 (io), 68 PA9 (io), 69 PA10 (io), 70 PA11 (io), 71 PA12 (io), 72 PA13 (io), 73 PF6 (io), 74 VSS (power), 75 VDD (power), 76 PA14 (io), 77 PA15 (io), 78 PC10 (io), 79 PC11 (io), 80 PC12 (io), 81 PD0 (io), 82 PD1 (io), 83 PD2 (io), 84 PD3 (io), 85 PD4 (io), 86 PD5 (io), 87 PD6 (io), 88 PD7 (io), 89 PB3 (io), 90 PB4 (io), 91 PB5 (io), 92 PB6 (io), 93 PB7 (io), 94 BOOT0 (in), 95 PB8 (io), 96 PB9 (io), 97 PE0 (io), 98 PE1 (io), 99 VSS (power), 100 VDD (power)

## STM32F303VEYx
designator *  value STM32F303VEYx
ki_keywords: ARM Cortex-M4 STM32F3 STM32F303; ki_description: ARM Cortex-M4 MCU, 512KB flash, 64KB RAM, 72MHz, 2-3.6V, 78 GPIO, WLCSP-100; ki_fp_filters: ST_WLCSP*Die446*; Footprint: Package_CSP:ST_WLCSP-100_Die446; Supplier: http://www.st.com/st-web-ui/static/active/en/resource/technical/document/datasheet/DM00118585.pdf
footprint ST_WLCSP-100_Die446
pins: A1 VSS (power), A2 VSS (power), A3 PC12 (io), A4 PD2 (io), A5 PB3 (io), A6 PB5 (io), A7 BOOT0 (in), A8 PE1 (io), A9 VDD (power), A10 VDD (power), B1 VSS (power), B2 PA15 (io), B3 PD0 (io), B4 PD3 (io), B5 PB4 (io), B6 PB6 (io), B7 PE0 (io), B8 VDD (power), B9 PE5 (io), B10 VDD (power), C1 PF6 (io), C2 PA14 (io), C3 PD1 (io), C4 PD4 (io), C5 PB7 (io), C6 PB9 (io), C7 VSS (power), C8 PE4 (io), C9 PC13 (io), C10 PC14 (io), D1 PA12 (io), D2 VDD (power), D3 PC11 (io), D4 PD7 (io), D5 PB8 (io), D6 PE2 (io), D7 PE3 (io), D8 VBAT (power), D9 PC15 (io), D10 PF9 (io), E1 PA10 (io), E2 PA11 (io), E3 PA13 (io), E4 PC10 (io), E5 PA9 (io), E6 PE8 (io), E7 PE6 (io), E8 PF2 (io), E9 NRST (in), E10 PF10 (io), F1 PC8 (io), F2 PC7 (io), F3 PC9 (io), F4 PC6 (io), F5 PA8 (io), F6 PC5 (io), F7 PA2 (io), F8 PE7 (io), F9 PF1 (in), F10 PF0 (in), G1 PD15 (io), G2 PD14 (io), G3 PD13 (io), G4 PD9 (io), G5 PE12 (io), G6 PC4 (io), G7 PA3 (io), G8 PC2 (io), G9 PC1 (io), G10 PC0 (io), H1 PD12 (io), H2 PD11 (io), H3 PD10 (io), H4 PB15 (io), H5 PE11 (io), H6 PA6 (io), H7 PA5 (io), H8 VSSA (power), H9 PA0 (io), H10 PC3 (io), J1 VSS (power), J2 PB14 (io), J3 PB13 (io), J4 PB12 (io), J5 VDD (power), J6 PB0 (io), J7 PA4 (io), J8 VREF+ (power), J9 PA1 (io), J10 VDDA (power), K1 VSS (power), K2 VSS (power), K3 PB11 (io), K4 PB10 (io), K5 PB2 (io), K6 PB1 (io), K7 PA7 (io), K8 VDD (power), K9 VSS (power), K10 VSS (power)

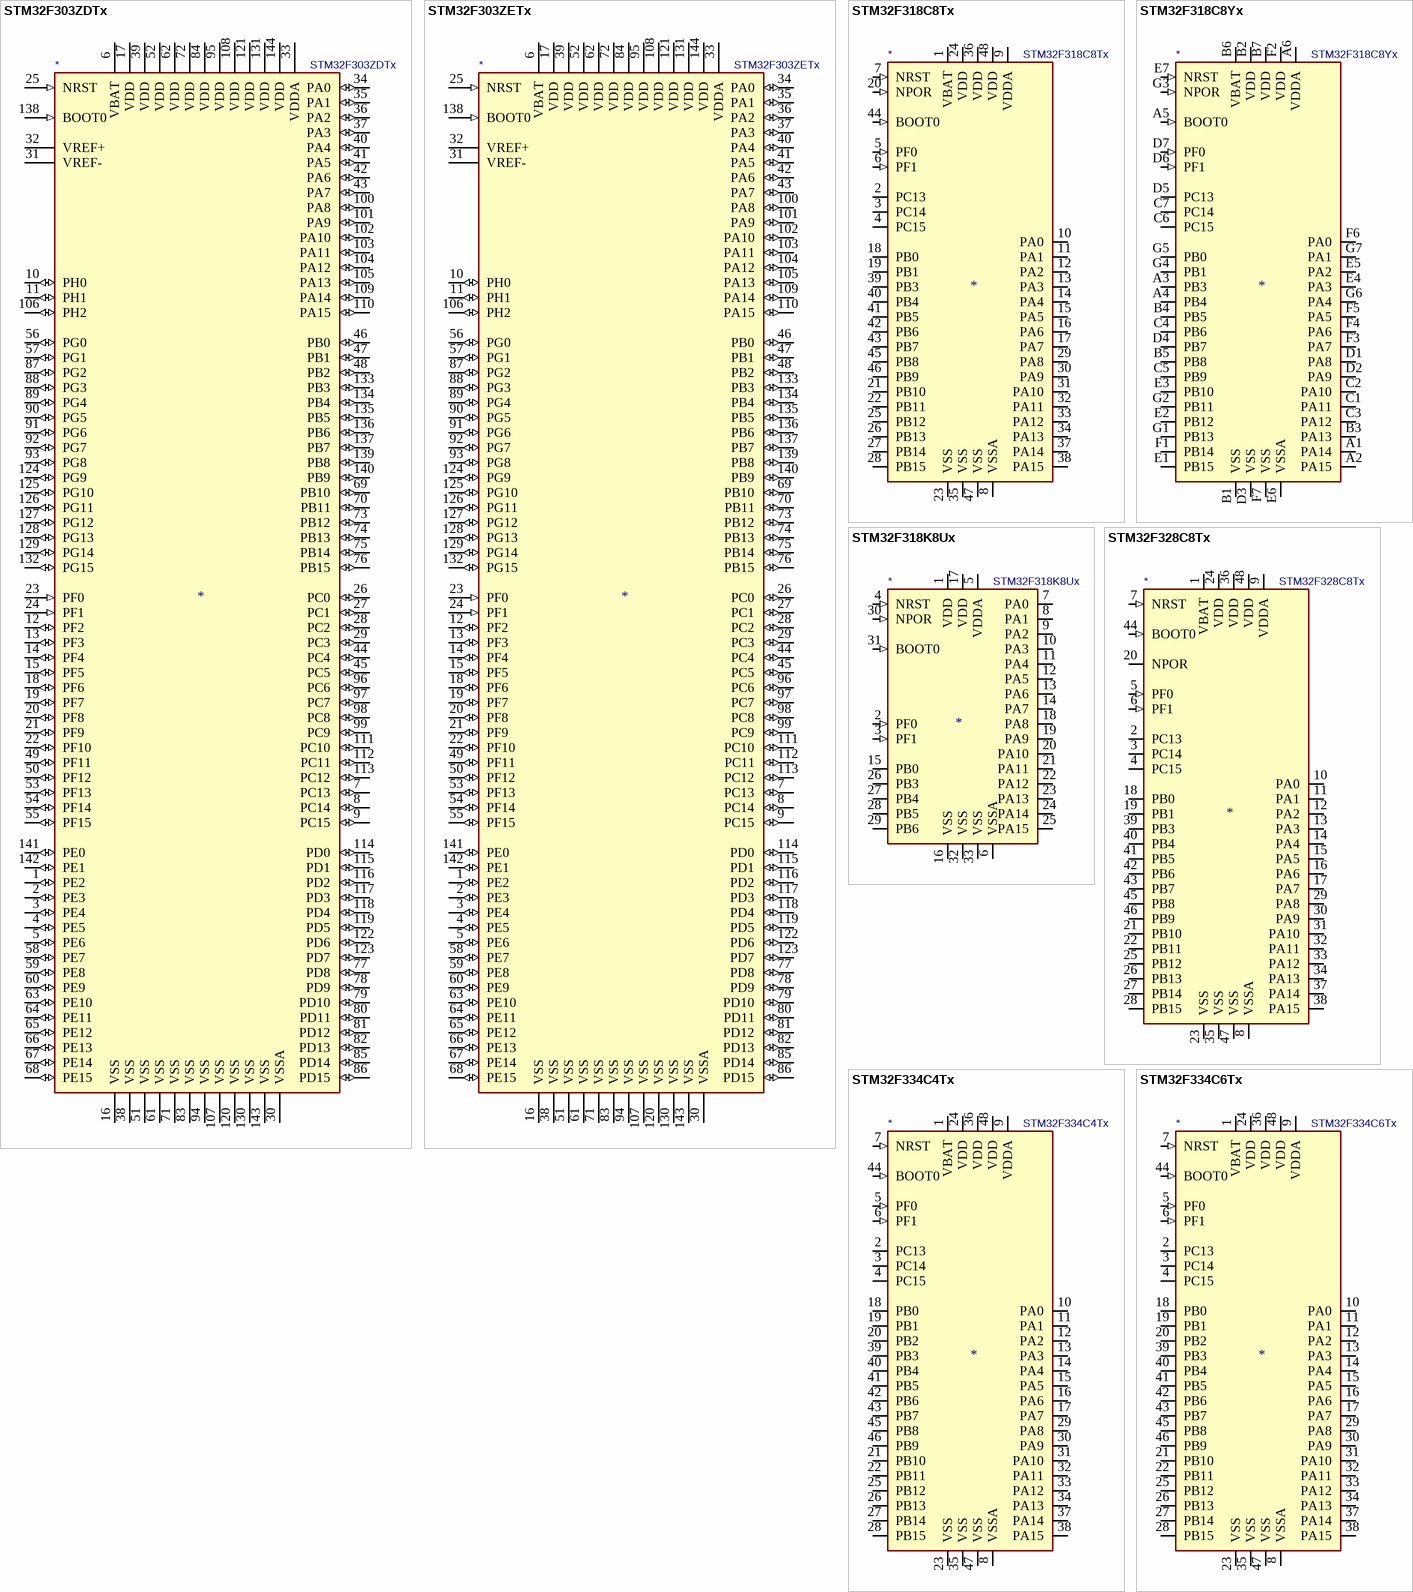
[diagram p7: symbols STM32F303ZDTx to STM32F334C6Tx]

## STM32F303ZDTx
designator *  value STM32F303ZDTx
ki_keywords: ARM Cortex-M4 STM32F3 STM32F303; ki_description: ARM Cortex-M4 MCU, 384KB flash, 64KB RAM, 72MHz, 2-3.6V, 115 GPIO, LQFP-144; ki_fp_filters: LQFP*20x20mm*P0.5mm*; Footprint: Package_QFP:LQFP-144_20x20mm_P0.5mm; Supplier: http://www.st.com/st-web-ui/static/active/en/resource/technical/document/datasheet/DM00118585.pdf
footprint LQFP-144_20x20mm_P0.5mm
pins: 1 PE2 (io), 2 PE3 (io), 3 PE4 (io), 4 PE5 (io), 5 PE6 (io), 6 VBAT (power), 7 PC13 (io), 8 PC14 (io), 9 PC15 (io), 10 PH0 (io), 11 PH1 (io), 12 PF2 (io), 13 PF3 (io), 14 PF4 (io), 15 PF5 (io), 16 VSS (power), 17 VDD (power), 18 PF6 (io), 19 PF7 (io), 20 PF8 (io), 21 PF9 (io), 22 PF10 (io), 23 PF0 (in), 24 PF1 (in), 25 NRST (in), 26 PC0 (io), 27 PC1 (io), 28 PC2 (io), 29 PC3 (io), 30 VSSA (power), 31 VREF- (power), 32 VREF+ (power), 33 VDDA (power), 34 PA0 (io), 35 PA1 (io), 36 PA2 (io), 37 PA3 (io), 38 VSS (power), 39 VDD (power), 40 PA4 (io), 41 PA5 (io), 42 PA6 (io), 43 PA7 (io), 44 PC4 (io), 45 PC5 (io), 46 PB0 (io), 47 PB1 (io), 48 PB2 (io), 49 PF11 (io), 50 PF12 (io), 51 VSS (power), 52 VDD (power), 53 PF13 (io), 54 PF14 (io), 55 PF15 (io), 56 PG0 (io), 57 PG1 (io), 58 PE7 (io), 59 PE8 (io), 60 PE9 (io), 61 VSS (power), 62 VDD (power), 63 PE10 (io), 64 PE11 (io), 65 PE12 (io), 66 PE13 (io), 67 PE14 (io), 68 PE15 (io), 69 PB10 (io), 70 PB11 (io), 71 VSS (power), 72 VDD (power), 73 PB12 (io), 74 PB13 (io), 75 PB14 (io), 76 PB15 (io), 77 PD8 (io), 78 PD9 (io), 79 PD10 (io), 80 PD11 (io), 81 PD12 (io), 82 PD13 (io), 83 VSS (power), 84 VDD (power), 85 PD14 (io), 86 PD15 (io), 87 PG2 (io), 88 PG3 (io), 89 PG4 (io), 90 PG5 (io), 91 PG6 (io), 92 PG7 (io), 93 PG8 (io), 94 VSS (power), 95 VDD (power), 96 PC6 (io), 97 PC7 (io), 98 PC8 (io), 99 PC9 (io), 100 PA8 (io), 101 PA9 (io), 102 PA10 (io), 103 PA11 (io), 104 PA12 (io), 105 PA13 (io), 106 PH2 (io), 107 VSS (power), 108 VDD (power), 109 PA14 (io), 110 PA15 (io), 111 PC10 (io), 112 PC11 (io), 113 PC12 (io), 114 PD0 (io), 115 PD1 (io), 116 PD2 (io), 117 PD3 (io), 118 PD4 (io), 119 PD5 (io), 120 VSS (power), 121 VDD (power), 122 PD6 (io), 123 PD7 (io), 124 PG9 (io), 125 PG10 (io), 126 PG11 (io), 127 PG12 (io), 128 PG13 (io), 129 PG14 (io), 130 VSS (power), 131 VDD (power), 132 PG15 (io), 133 PB3 (io), 134 PB4 (io), 135 PB5 (io), 136 PB6 (io), 137 PB7 (io), 138 BOOT0 (in), 139 PB8 (io), 140 PB9 (io), 141 PE0 (io), 142 PE1 (io), 143 VSS (power), 144 VDD (power)

## STM32F303ZETx
designator *  value STM32F303ZETx
ki_keywords: ARM Cortex-M4 STM32F3 STM32F303; ki_description: ARM Cortex-M4 MCU, 512KB flash, 64KB RAM, 72MHz, 2-3.6V, 115 GPIO, LQFP-144; ki_fp_filters: LQFP*20x20mm*P0.5mm*; Footprint: Package_QFP:LQFP-144_20x20mm_P0.5mm; Supplier: http://www.st.com/st-web-ui/static/active/en/resource/technical/document/datasheet/DM00118585.pdf
footprint LQFP-144_20x20mm_P0.5mm
pins: 1 PE2 (io), 2 PE3 (io), 3 PE4 (io), 4 PE5 (io), 5 PE6 (io), 6 VBAT (power), 7 PC13 (io), 8 PC14 (io), 9 PC15 (io), 10 PH0 (io), 11 PH1 (io), 12 PF2 (io), 13 PF3 (io), 14 PF4 (io), 15 PF5 (io), 16 VSS (power), 17 VDD (power), 18 PF6 (io), 19 PF7 (io), 20 PF8 (io), 21 PF9 (io), 22 PF10 (io), 23 PF0 (in), 24 PF1 (in), 25 NRST (in), 26 PC0 (io), 27 PC1 (io), 28 PC2 (io), 29 PC3 (io), 30 VSSA (power), 31 VREF- (power), 32 VREF+ (power), 33 VDDA (power), 34 PA0 (io), 35 PA1 (io), 36 PA2 (io), 37 PA3 (io), 38 VSS (power), 39 VDD (power), 40 PA4 (io), 41 PA5 (io), 42 PA6 (io), 43 PA7 (io), 44 PC4 (io), 45 PC5 (io), 46 PB0 (io), 47 PB1 (io), 48 PB2 (io), 49 PF11 (io), 50 PF12 (io), 51 VSS (power), 52 VDD (power), 53 PF13 (io), 54 PF14 (io), 55 PF15 (io), 56 PG0 (io), 57 PG1 (io), 58 PE7 (io), 59 PE8 (io), 60 PE9 (io), 61 VSS (power), 62 VDD (power), 63 PE10 (io), 64 PE11 (io), 65 PE12 (io), 66 PE13 (io), 67 PE14 (io), 68 PE15 (io), 69 PB10 (io), 70 PB11 (io), 71 VSS (power), 72 VDD (power), 73 PB12 (io), 74 PB13 (io), 75 PB14 (io), 76 PB15 (io), 77 PD8 (io), 78 PD9 (io), 79 PD10 (io), 80 PD11 (io), 81 PD12 (io), 82 PD13 (io), 83 VSS (power), 84 VDD (power), 85 PD14 (io), 86 PD15 (io), 87 PG2 (io), 88 PG3 (io), 89 PG4 (io), 90 PG5 (io), 91 PG6 (io), 92 PG7 (io), 93 PG8 (io), 94 VSS (power), 95 VDD (power), 96 PC6 (io), 97 PC7 (io), 98 PC8 (io), 99 PC9 (io), 100 PA8 (io), 101 PA9 (io), 102 PA10 (io), 103 PA11 (io), 104 PA12 (io), 105 PA13 (io), 106 PH2 (io), 107 VSS (power), 108 VDD (power), 109 PA14 (io), 110 PA15 (io), 111 PC10 (io), 112 PC11 (io), 113 PC12 (io), 114 PD0 (io), 115 PD1 (io), 116 PD2 (io), 117 PD3 (io), 118 PD4 (io), 119 PD5 (io), 120 VSS (power), 121 VDD (power), 122 PD6 (io), 123 PD7 (io), 124 PG9 (io), 125 PG10 (io), 126 PG11 (io), 127 PG12 (io), 128 PG13 (io), 129 PG14 (io), 130 VSS (power), 131 VDD (power), 132 PG15 (io), 133 PB3 (io), 134 PB4 (io), 135 PB5 (io), 136 PB6 (io), 137 PB7 (io), 138 BOOT0 (in), 139 PB8 (io), 140 PB9 (io), 141 PE0 (io), 142 PE1 (io), 143 VSS (power), 144 VDD (power)

## STM32F318C8Tx
designator *  value STM32F318C8Tx
ki_keywords: ARM Cortex-M4 STM32F3 STM32F3x8; ki_description: ARM Cortex-M4 MCU, 64KB flash, 16KB RAM, 72MHz, 1.65-1.95V, 36 GPIO, LQFP-48; ki_fp_filters: LQFP*7x7mm*P0.5mm*; Footprint: Package_QFP:LQFP-48_7x7mm_P0.5mm; Supplier: http://www.st.com/st-web-ui/static/active/en/resource/technical/document/datasheet/DM00115350.pdf
footprint LQFP-48_7x7mm_P0.5mm
pins: 1 VBAT (power), 2 PC13 (io), 3 PC14 (io), 4 PC15 (io), 5 PF0 (in), 6 PF1 (in), 7 NRST (in), 8 VSSA (power), 9 VDDA (power), 10 PA0 (io), 11 PA1 (io), 12 PA2 (io), 13 PA3 (io), 14 PA4 (io), 15 PA5 (io), 16 PA6 (io), 17 PA7 (io), 18 PB0 (io), 19 PB1 (io), 20 NPOR (in), 21 PB10 (io), 22 PB11 (io), 23 VSS (power), 24 VDD (power), 25 PB12 (io), 26 PB13 (io), 27 PB14 (io), 28 PB15 (io), 29 PA8 (io), 30 PA9 (io), 31 PA10 (io), 32 PA11 (io), 33 PA12 (io), 34 PA13 (io), 35 VSS (power), 36 VDD (power), 37 PA14 (io), 38 PA15 (io), 39 PB3 (io), 40 PB4 (io), 41 PB5 (io), 42 PB6 (io), 43 PB7 (io), 44 BOOT0 (in), 45 PB8 (io), 46 PB9 (io), 47 VSS (power), 48 VDD (power)

## STM32F318C8Yx
designator *  value STM32F318C8Yx
ki_keywords: ARM Cortex-M4 STM32F3 STM32F3x8; ki_description: ARM Cortex-M4 MCU, 64KB flash, 16KB RAM, 72MHz, 1.65-1.95V, 36 GPIO, WLCSP-49; ki_fp_filters: ST_WLCSP*Die439*; Footprint: Package_CSP:ST_WLCSP-49_Die439; Supplier: http://www.st.com/st-web-ui/static/active/en/resource/technical/document/datasheet/DM00115350.pdf
footprint ST_WLCSP-49_Die439
pins: A1 PA14 (io), A2 PA15 (io), A3 PB3 (io), A4 PB4 (io), A5 BOOT0 (in), A6 VDDA (power), A7 NC (in) hidden, B1 VSS (power), B2 VDD (power), B3 PA13 (io), B4 PB5 (io), B5 PB8 (io), B6 VBAT (power), B7 VDD (power), C1 PA11 (io), C2 PA10 (io), C3 PA12 (io), C4 PB6 (io), C5 PB9 (io), C6 PC15 (io), C7 PC14 (io), D1 PA8 (io), D2 PA9 (io), D3 VSS (power), D4 PB7 (io), D5 PC13 (io), D6 PF1 (in), D7 PF0 (in), E1 PB15 (io), E2 PB12 (io), E3 PB10 (io), E4 PA3 (io), E5 PA2 (io), E6 VSSA (power), E7 NRST (in), F1 PB14 (io), F2 VDD (power), F3 PA7 (io), F4 PA6 (io), F5 PA5 (io), F6 PA0 (io), F7 VSS (power), G1 PB13 (io), G2 PB11 (io), G3 NPOR (in), G4 PB1 (io), G5 PB0 (io), G6 PA4 (io), G7 PA1 (io)

## STM32F318K8Ux
designator *  value STM32F318K8Ux
ki_keywords: ARM Cortex-M4 STM32F3 STM32F3x8; ki_description: ARM Cortex-M4 MCU, 64KB flash, 16KB RAM, 72MHz, 1.65-1.95V, 23 GPIO, UFQFPN-32; ki_fp_filters: QFN*1EP*5x5mm*P0.5mm*; Footprint: Package_DFN_QFN:QFN-32-1EP_5x5mm_P0.5mm_EP3.45x3.45mm; Supplier: http://www.st.com/st-web-ui/static/active/en/resource/technical/document/datasheet/DM00115350.pdf
footprint QFN-32-1EP_5x5mm_P0.5mm_EP3.45x3.45mm
pins: 1 VDD (power), 2 PF0 (in), 3 PF1 (in), 4 NRST (in), 5 VDDA (power), 6 VSSA (power), 7 PA0 (io), 8 PA1 (io), 9 PA2 (io), 10 PA3 (io), 11 PA4 (io), 12 PA5 (io), 13 PA6 (io), 14 PA7 (io), 15 PB0 (io), 16 VSS (power), 17 VDD (power), 18 PA8 (io), 19 PA9 (io), 20 PA10 (io), 21 PA11 (io), 22 PA12 (io), 23 PA13 (io), 24 PA14 (io), 25 PA15 (io), 26 PB3 (io), 27 PB4 (io), 28 PB5 (io), 29 PB6 (io), 30 NPOR (in), 31 BOOT0 (in), 32 VSS (power), 33 VSS (power)

## STM32F328C8Tx
designator *  value STM32F328C8Tx
ki_keywords: ARM Cortex-M4 STM32F3 STM32F3x8; ki_description: ARM Cortex-M4 MCU, 64KB flash, 12KB RAM, 72MHz, 1.65-1.95V, 36 GPIO, LQFP-48; ki_fp_filters: LQFP*7x7mm*P0.5mm*; Footprint: Package_QFP:LQFP-48_7x7mm_P0.5mm; Supplier: http://www.st.com/st-web-ui/static/active/en/resource/technical/document/datasheet/DM00116561.pdf
footprint LQFP-48_7x7mm_P0.5mm
pins: 1 VBAT (power), 2 PC13 (io), 3 PC14 (io), 4 PC15 (io), 5 PF0 (in), 6 PF1 (in), 7 NRST (in), 8 VSSA (power), 9 VDDA (power), 10 PA0 (io), 11 PA1 (io), 12 PA2 (io), 13 PA3 (io), 14 PA4 (io), 15 PA5 (io), 16 PA6 (io), 17 PA7 (io), 18 PB0 (io), 19 PB1 (io), 20 NPOR (power), 21 PB10 (io), 22 PB11 (io), 23 VSS (power), 24 VDD (power), 25 PB12 (io), 26 PB13 (io), 27 PB14 (io), 28 PB15 (io), 29 PA8 (io), 30 PA9 (io), 31 PA10 (io), 32 PA11 (io), 33 PA12 (io), 34 PA13 (io), 35 VSS (power), 36 VDD (power), 37 PA14 (io), 38 PA15 (io), 39 PB3 (io), 40 PB4 (io), 41 PB5 (io), 42 PB6 (io), 43 PB7 (io), 44 BOOT0 (in), 45 PB8 (io), 46 PB9 (io), 47 VSS (power), 48 VDD (power)

## STM32F334C4Tx
designator *  value STM32F334C4Tx
ki_keywords: ARM Cortex-M4 STM32F3 STM32F334; ki_description: ARM Cortex-M4 MCU, 16KB flash, 12KB RAM, 72MHz, 2-3.6V, 37 GPIO, LQFP-48; ki_fp_filters: LQFP*7x7mm*P0.5mm*; Footprint: Package_QFP:LQFP-48_7x7mm_P0.5mm; Supplier: http://www.st.com/st-web-ui/static/active/en/resource/technical/document/datasheet/DM00097745.pdf
footprint LQFP-48_7x7mm_P0.5mm
pins: 1 VBAT (power), 2 PC13 (io), 3 PC14 (io), 4 PC15 (io), 5 PF0 (in), 6 PF1 (in), 7 NRST (in), 8 VSSA (power), 9 VDDA (power), 10 PA0 (io), 11 PA1 (io), 12 PA2 (io), 13 PA3 (io), 14 PA4 (io), 15 PA5 (io), 16 PA6 (io), 17 PA7 (io), 18 PB0 (io), 19 PB1 (io), 20 PB2 (io), 21 PB10 (io), 22 PB11 (io), 23 VSS (power), 24 VDD (power), 25 PB12 (io), 26 PB13 (io), 27 PB14 (io), 28 PB15 (io), 29 PA8 (io), 30 PA9 (io), 31 PA10 (io), 32 PA11 (io), 33 PA12 (io), 34 PA13 (io), 35 VSS (power), 36 VDD (power), 37 PA14 (io), 38 PA15 (io), 39 PB3 (io), 40 PB4 (io), 41 PB5 (io), 42 PB6 (io), 43 PB7 (io), 44 BOOT0 (in), 45 PB8 (io), 46 PB9 (io), 47 VSS (power), 48 VDD (power)

## STM32F334C6Tx
designator *  value STM32F334C6Tx
ki_keywords: ARM Cortex-M4 STM32F3 STM32F334; ki_description: ARM Cortex-M4 MCU, 32KB flash, 12KB RAM, 72MHz, 2-3.6V, 37 GPIO, LQFP-48; ki_fp_filters: LQFP*7x7mm*P0.5mm*; Footprint: Package_QFP:LQFP-48_7x7mm_P0.5mm; Supplier: http://www.st.com/st-web-ui/static/active/en/resource/technical/document/datasheet/DM00097745.pdf
footprint LQFP-48_7x7mm_P0.5mm
pins: 1 VBAT (power), 2 PC13 (io), 3 PC14 (io), 4 PC15 (io), 5 PF0 (in), 6 PF1 (in), 7 NRST (in), 8 VSSA (power), 9 VDDA (power), 10 PA0 (io), 11 PA1 (io), 12 PA2 (io), 13 PA3 (io), 14 PA4 (io), 15 PA5 (io), 16 PA6 (io), 17 PA7 (io), 18 PB0 (io), 19 PB1 (io), 20 PB2 (io), 21 PB10 (io), 22 PB11 (io), 23 VSS (power), 24 VDD (power), 25 PB12 (io), 26 PB13 (io), 27 PB14 (io), 28 PB15 (io), 29 PA8 (io), 30 PA9 (io), 31 PA10 (io), 32 PA11 (io), 33 PA12 (io), 34 PA13 (io), 35 VSS (power), 36 VDD (power), 37 PA14 (io), 38 PA15 (io), 39 PB3 (io), 40 PB4 (io), 41 PB5 (io), 42 PB6 (io), 43 PB7 (io), 44 BOOT0 (in), 45 PB8 (io), 46 PB9 (io), 47 VSS (power), 48 VDD (power)

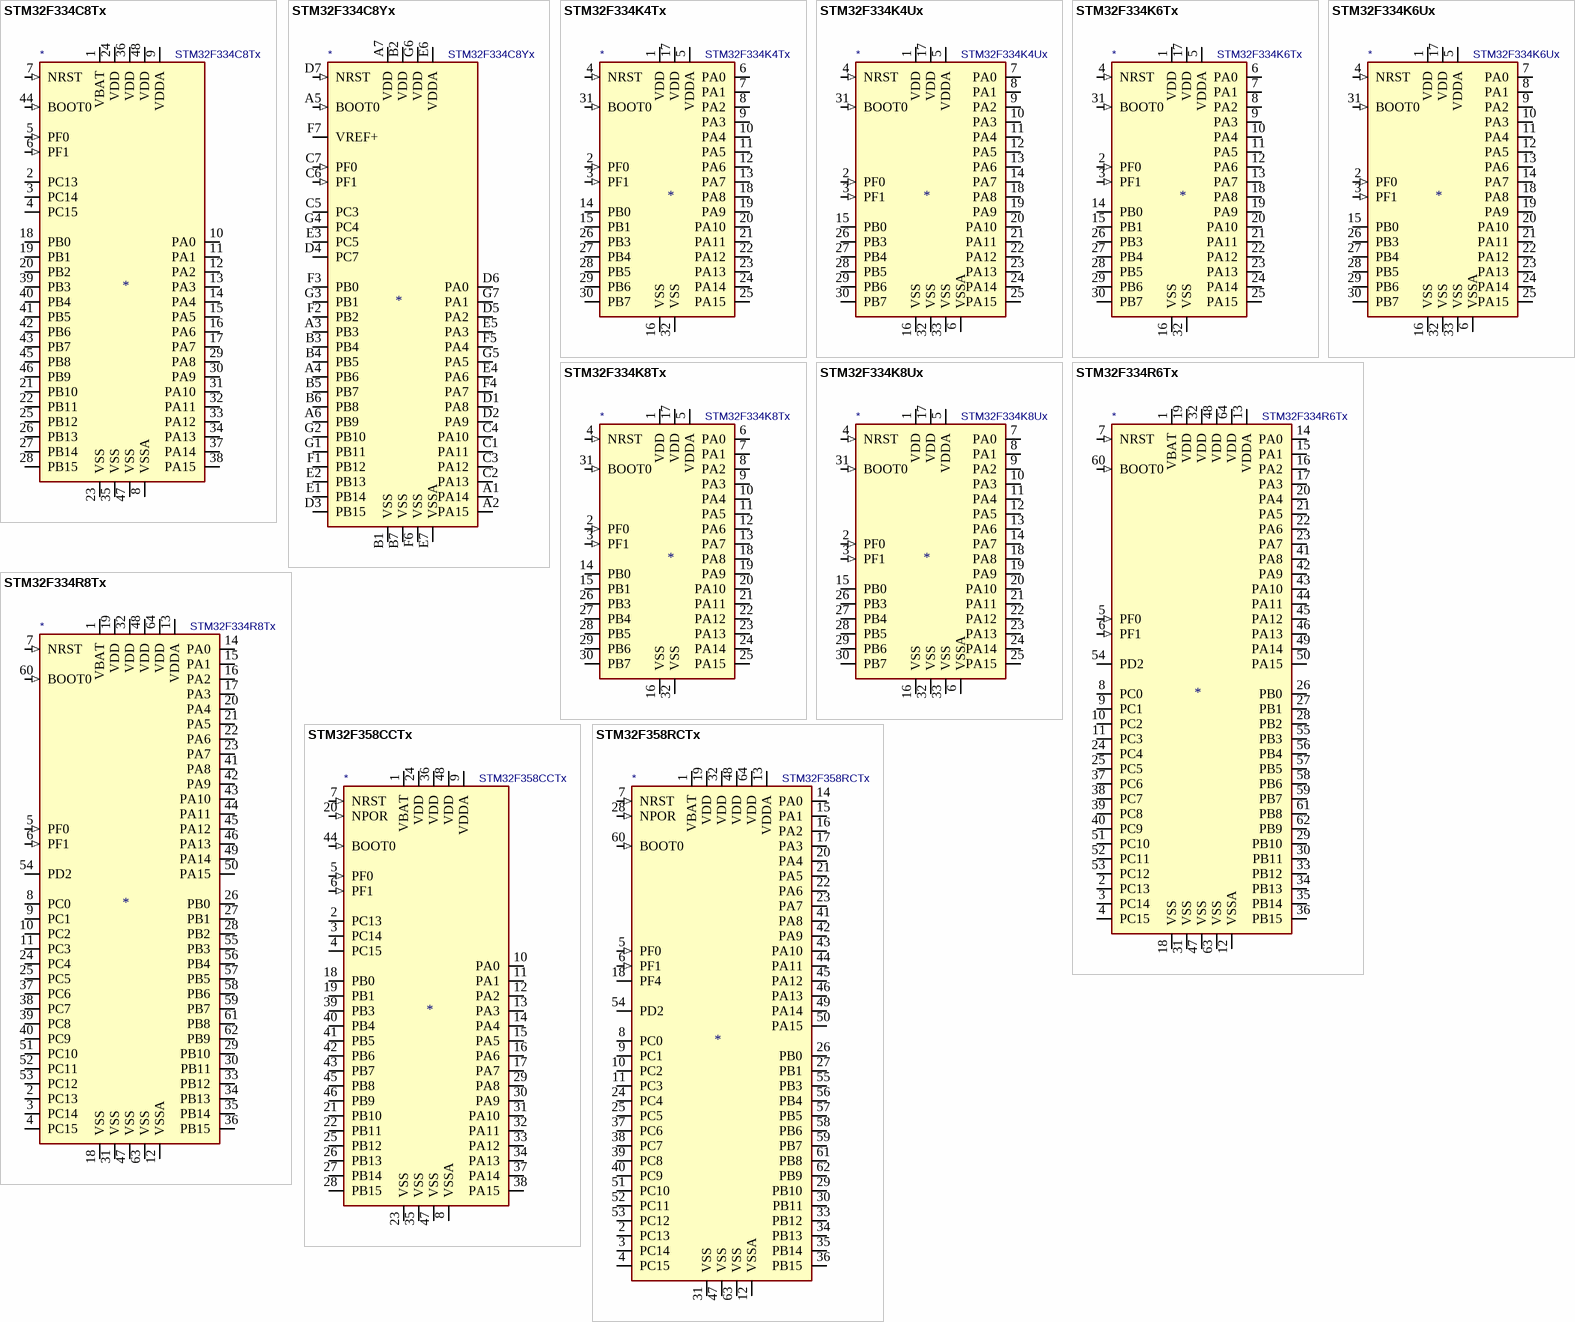
[diagram p8: symbols STM32F334C8Tx to STM32F358RCTx]

## STM32F334C8Tx
designator *  value STM32F334C8Tx
ki_keywords: ARM Cortex-M4 STM32F3 STM32F334; ki_description: ARM Cortex-M4 MCU, 64KB flash, 12KB RAM, 72MHz, 2-3.6V, 37 GPIO, LQFP-48; ki_fp_filters: LQFP*7x7mm*P0.5mm*; Footprint: Package_QFP:LQFP-48_7x7mm_P0.5mm; Supplier: http://www.st.com/st-web-ui/static/active/en/resource/technical/document/datasheet/DM00097745.pdf
footprint LQFP-48_7x7mm_P0.5mm
pins: 1 VBAT (power), 2 PC13 (io), 3 PC14 (io), 4 PC15 (io), 5 PF0 (in), 6 PF1 (in), 7 NRST (in), 8 VSSA (power), 9 VDDA (power), 10 PA0 (io), 11 PA1 (io), 12 PA2 (io), 13 PA3 (io), 14 PA4 (io), 15 PA5 (io), 16 PA6 (io), 17 PA7 (io), 18 PB0 (io), 19 PB1 (io), 20 PB2 (io), 21 PB10 (io), 22 PB11 (io), 23 VSS (power), 24 VDD (power), 25 PB12 (io), 26 PB13 (io), 27 PB14 (io), 28 PB15 (io), 29 PA8 (io), 30 PA9 (io), 31 PA10 (io), 32 PA11 (io), 33 PA12 (io), 34 PA13 (io), 35 VSS (power), 36 VDD (power), 37 PA14 (io), 38 PA15 (io), 39 PB3 (io), 40 PB4 (io), 41 PB5 (io), 42 PB6 (io), 43 PB7 (io), 44 BOOT0 (in), 45 PB8 (io), 46 PB9 (io), 47 VSS (power), 48 VDD (power)

## STM32F334C8Yx
designator *  value STM32F334C8Yx
ki_keywords: ARM Cortex-M4 STM32F3 STM32F334; ki_description: ARM Cortex-M4 MCU, 64KB flash, 12KB RAM, 72MHz, 2-3.6V, 38 GPIO, WLCSP-49; ki_fp_filters: ST_WLCSP*Die438*; Footprint: Package_CSP:ST_WLCSP-49_Die438; Supplier: http://www.st.com/st-web-ui/static/active/en/resource/technical/document/datasheet/DM00097745.pdf
footprint ST_WLCSP-49_Die438
pins: A1 PA14 (io), A2 PA15 (io), A3 PB3 (io), A4 PB6 (io), A5 BOOT0 (in), A6 PB9 (io), A7 VDD (power), B1 VSS (power), B2 VDD (power), B3 PB4 (io), B4 PB5 (io), B5 PB7 (io), B6 PB8 (io), B7 VSS (power), C1 PA11 (io), C2 PA13 (io), C3 PA12 (io), C4 PA10 (io), C5 PC3 (io), C6 PF1 (in), C7 PF0 (in), D1 PA8 (io), D2 PA9 (io), D3 PB15 (io), D4 PC7 (io), D5 PA2 (io), D6 PA0 (io), D7 NRST (in), E1 PB14 (io), E2 PB13 (io), E3 PC5 (io), E4 PA6 (io), E5 PA3 (io), E6 VDDA (power), E7 VSSA (power), F1 PB12 (io), F2 PB2 (io), F3 PB0 (io), F4 PA7 (io), F5 PA4 (io), F6 VSS (power), F7 VREF+ (power), G1 PB11 (io), G2 PB10 (io), G3 PB1 (io), G4 PC4 (io), G5 PA5 (io), G6 VDD (power), G7 PA1 (io)

## STM32F334K4Tx
designator *  value STM32F334K4Tx
ki_keywords: ARM Cortex-M4 STM32F3 STM32F334; ki_description: ARM Cortex-M4 MCU, 16KB flash, 12KB RAM, 72MHz, 2-3.6V, 25 GPIO, LQFP-32; ki_fp_filters: LQFP*7x7mm*P0.8mm*; Footprint: Package_QFP:LQFP-32_7x7mm_P0.8mm; Supplier: http://www.st.com/st-web-ui/static/active/en/resource/technical/document/datasheet/DM00097745.pdf
footprint LQFP-32_7x7mm_P0.8mm
pins: 1 VDD (power), 2 PF0 (in), 3 PF1 (in), 4 NRST (in), 5 VDDA (power), 6 PA0 (io), 7 PA1 (io), 8 PA2 (io), 9 PA3 (io), 10 PA4 (io), 11 PA5 (io), 12 PA6 (io), 13 PA7 (io), 14 PB0 (io), 15 PB1 (io), 16 VSS (power), 17 VDD (power), 18 PA8 (io), 19 PA9 (io), 20 PA10 (io), 21 PA11 (io), 22 PA12 (io), 23 PA13 (io), 24 PA14 (io), 25 PA15 (io), 26 PB3 (io), 27 PB4 (io), 28 PB5 (io), 29 PB6 (io), 30 PB7 (io), 31 BOOT0 (in), 32 VSS (power)

## STM32F334K4Ux
designator *  value STM32F334K4Ux
ki_keywords: ARM Cortex-M4 STM32F3 STM32F334; ki_description: ARM Cortex-M4 MCU, 16KB flash, 12KB RAM, 72MHz, 2-3.6V, 24 GPIO, UFQFPN-32; ki_fp_filters: QFN*1EP*5x5mm*P0.5mm*; Footprint: Package_DFN_QFN:QFN-32-1EP_5x5mm_P0.5mm_EP3.45x3.45mm; Supplier: http://www.st.com/st-web-ui/static/active/en/resource/technical/document/datasheet/DM00097745.pdf
footprint QFN-32-1EP_5x5mm_P0.5mm_EP3.45x3.45mm
pins: 1 VDD (power), 2 PF0 (in), 3 PF1 (in), 4 NRST (in), 5 VDDA (power), 6 VSSA (power), 7 PA0 (io), 8 PA1 (io), 9 PA2 (io), 10 PA3 (io), 11 PA4 (io), 12 PA5 (io), 13 PA6 (io), 14 PA7 (io), 15 PB0 (io), 16 VSS (power), 17 VDD (power), 18 PA8 (io), 19 PA9 (io), 20 PA10 (io), 21 PA11 (io), 22 PA12 (io), 23 PA13 (io), 24 PA14 (io), 25 PA15 (io), 26 PB3 (io), 27 PB4 (io), 28 PB5 (io), 29 PB6 (io), 30 PB7 (io), 31 BOOT0 (in), 32 VSS (power), 33 VSS (power)

## STM32F334K6Tx
designator *  value STM32F334K6Tx
ki_keywords: ARM Cortex-M4 STM32F3 STM32F334; ki_description: ARM Cortex-M4 MCU, 32KB flash, 12KB RAM, 72MHz, 2-3.6V, 25 GPIO, LQFP-32; ki_fp_filters: LQFP*7x7mm*P0.8mm*; Footprint: Package_QFP:LQFP-32_7x7mm_P0.8mm; Supplier: http://www.st.com/st-web-ui/static/active/en/resource/technical/document/datasheet/DM00097745.pdf
footprint LQFP-32_7x7mm_P0.8mm
pins: 1 VDD (power), 2 PF0 (in), 3 PF1 (in), 4 NRST (in), 5 VDDA (power), 6 PA0 (io), 7 PA1 (io), 8 PA2 (io), 9 PA3 (io), 10 PA4 (io), 11 PA5 (io), 12 PA6 (io), 13 PA7 (io), 14 PB0 (io), 15 PB1 (io), 16 VSS (power), 17 VDD (power), 18 PA8 (io), 19 PA9 (io), 20 PA10 (io), 21 PA11 (io), 22 PA12 (io), 23 PA13 (io), 24 PA14 (io), 25 PA15 (io), 26 PB3 (io), 27 PB4 (io), 28 PB5 (io), 29 PB6 (io), 30 PB7 (io), 31 BOOT0 (in), 32 VSS (power)

## STM32F334K6Ux
designator *  value STM32F334K6Ux
ki_keywords: ARM Cortex-M4 STM32F3 STM32F334; ki_description: ARM Cortex-M4 MCU, 32KB flash, 12KB RAM, 72MHz, 2-3.6V, 24 GPIO, UFQFPN-32; ki_fp_filters: QFN*1EP*5x5mm*P0.5mm*; Footprint: Package_DFN_QFN:QFN-32-1EP_5x5mm_P0.5mm_EP3.45x3.45mm; Supplier: http://www.st.com/st-web-ui/static/active/en/resource/technical/document/datasheet/DM00097745.pdf
footprint QFN-32-1EP_5x5mm_P0.5mm_EP3.45x3.45mm
pins: 1 VDD (power), 2 PF0 (in), 3 PF1 (in), 4 NRST (in), 5 VDDA (power), 6 VSSA (power), 7 PA0 (io), 8 PA1 (io), 9 PA2 (io), 10 PA3 (io), 11 PA4 (io), 12 PA5 (io), 13 PA6 (io), 14 PA7 (io), 15 PB0 (io), 16 VSS (power), 17 VDD (power), 18 PA8 (io), 19 PA9 (io), 20 PA10 (io), 21 PA11 (io), 22 PA12 (io), 23 PA13 (io), 24 PA14 (io), 25 PA15 (io), 26 PB3 (io), 27 PB4 (io), 28 PB5 (io), 29 PB6 (io), 30 PB7 (io), 31 BOOT0 (in), 32 VSS (power), 33 VSS (power)

## STM32F334K8Tx
designator *  value STM32F334K8Tx
ki_keywords: ARM Cortex-M4 STM32F3 STM32F334; ki_description: ARM Cortex-M4 MCU, 64KB flash, 12KB RAM, 72MHz, 2-3.6V, 25 GPIO, LQFP-32; ki_fp_filters: LQFP*7x7mm*P0.8mm*; Footprint: Package_QFP:LQFP-32_7x7mm_P0.8mm; Supplier: http://www.st.com/st-web-ui/static/active/en/resource/technical/document/datasheet/DM00097745.pdf
footprint LQFP-32_7x7mm_P0.8mm
pins: 1 VDD (power), 2 PF0 (in), 3 PF1 (in), 4 NRST (in), 5 VDDA (power), 6 PA0 (io), 7 PA1 (io), 8 PA2 (io), 9 PA3 (io), 10 PA4 (io), 11 PA5 (io), 12 PA6 (io), 13 PA7 (io), 14 PB0 (io), 15 PB1 (io), 16 VSS (power), 17 VDD (power), 18 PA8 (io), 19 PA9 (io), 20 PA10 (io), 21 PA11 (io), 22 PA12 (io), 23 PA13 (io), 24 PA14 (io), 25 PA15 (io), 26 PB3 (io), 27 PB4 (io), 28 PB5 (io), 29 PB6 (io), 30 PB7 (io), 31 BOOT0 (in), 32 VSS (power)

## STM32F334K8Ux
designator *  value STM32F334K8Ux
ki_keywords: ARM Cortex-M4 STM32F3 STM32F334; ki_description: ARM Cortex-M4 MCU, 64KB flash, 12KB RAM, 72MHz, 2-3.6V, 24 GPIO, UFQFPN-32; ki_fp_filters: QFN*1EP*5x5mm*P0.5mm*; Footprint: Package_DFN_QFN:QFN-32-1EP_5x5mm_P0.5mm_EP3.45x3.45mm; Supplier: http://www.st.com/st-web-ui/static/active/en/resource/technical/document/datasheet/DM00097745.pdf
footprint QFN-32-1EP_5x5mm_P0.5mm_EP3.45x3.45mm
pins: 1 VDD (power), 2 PF0 (in), 3 PF1 (in), 4 NRST (in), 5 VDDA (power), 6 VSSA (power), 7 PA0 (io), 8 PA1 (io), 9 PA2 (io), 10 PA3 (io), 11 PA4 (io), 12 PA5 (io), 13 PA6 (io), 14 PA7 (io), 15 PB0 (io), 16 VSS (power), 17 VDD (power), 18 PA8 (io), 19 PA9 (io), 20 PA10 (io), 21 PA11 (io), 22 PA12 (io), 23 PA13 (io), 24 PA14 (io), 25 PA15 (io), 26 PB3 (io), 27 PB4 (io), 28 PB5 (io), 29 PB6 (io), 30 PB7 (io), 31 BOOT0 (in), 32 VSS (power), 33 VSS (power)

## STM32F334R6Tx
designator *  value STM32F334R6Tx
ki_keywords: ARM Cortex-M4 STM32F3 STM32F334; ki_description: ARM Cortex-M4 MCU, 32KB flash, 12KB RAM, 72MHz, 2-3.6V, 51 GPIO, LQFP-64; ki_fp_filters: LQFP*10x10mm*P0.5mm*; Footprint: Package_QFP:LQFP-64_10x10mm_P0.5mm; Supplier: http://www.st.com/st-web-ui/static/active/en/resource/technical/document/datasheet/DM00097745.pdf
footprint LQFP-64_10x10mm_P0.5mm
pins: 1 VBAT (power), 2 PC13 (io), 3 PC14 (io), 4 PC15 (io), 5 PF0 (in), 6 PF1 (in), 7 NRST (in), 8 PC0 (io), 9 PC1 (io), 10 PC2 (io), 11 PC3 (io), 12 VSSA (power), 13 VDDA (power), 14 PA0 (io), 15 PA1 (io), 16 PA2 (io), 17 PA3 (io), 18 VSS (power), 19 VDD (power), 20 PA4 (io), 21 PA5 (io), 22 PA6 (io), 23 PA7 (io), 24 PC4 (io), 25 PC5 (io), 26 PB0 (io), 27 PB1 (io), 28 PB2 (io), 29 PB10 (io), 30 PB11 (io), 31 VSS (power), 32 VDD (power), 33 PB12 (io), 34 PB13 (io), 35 PB14 (io), 36 PB15 (io), 37 PC6 (io), 38 PC7 (io), 39 PC8 (io), 40 PC9 (io), 41 PA8 (io), 42 PA9 (io), 43 PA10 (io), 44 PA11 (io), 45 PA12 (io), 46 PA13 (io), 47 VSS (power), 48 VDD (power), 49 PA14 (io), 50 PA15 (io), 51 PC10 (io), 52 PC11 (io), 53 PC12 (io), 54 PD2 (io), 55 PB3 (io), 56 PB4 (io), 57 PB5 (io), 58 PB6 (io), 59 PB7 (io), 60 BOOT0 (in), 61 PB8 (io), 62 PB9 (io), 63 VSS (power), 64 VDD (power)

## STM32F334R8Tx
designator *  value STM32F334R8Tx
ki_keywords: ARM Cortex-M4 STM32F3 STM32F334; ki_description: ARM Cortex-M4 MCU, 64KB flash, 12KB RAM, 72MHz, 2-3.6V, 51 GPIO, LQFP-64; ki_fp_filters: LQFP*10x10mm*P0.5mm*; Footprint: Package_QFP:LQFP-64_10x10mm_P0.5mm; Supplier: http://www.st.com/st-web-ui/static/active/en/resource/technical/document/datasheet/DM00097745.pdf
footprint LQFP-64_10x10mm_P0.5mm
pins: 1 VBAT (power), 2 PC13 (io), 3 PC14 (io), 4 PC15 (io), 5 PF0 (in), 6 PF1 (in), 7 NRST (in), 8 PC0 (io), 9 PC1 (io), 10 PC2 (io), 11 PC3 (io), 12 VSSA (power), 13 VDDA (power), 14 PA0 (io), 15 PA1 (io), 16 PA2 (io), 17 PA3 (io), 18 VSS (power), 19 VDD (power), 20 PA4 (io), 21 PA5 (io), 22 PA6 (io), 23 PA7 (io), 24 PC4 (io), 25 PC5 (io), 26 PB0 (io), 27 PB1 (io), 28 PB2 (io), 29 PB10 (io), 30 PB11 (io), 31 VSS (power), 32 VDD (power), 33 PB12 (io), 34 PB13 (io), 35 PB14 (io), 36 PB15 (io), 37 PC6 (io), 38 PC7 (io), 39 PC8 (io), 40 PC9 (io), 41 PA8 (io), 42 PA9 (io), 43 PA10 (io), 44 PA11 (io), 45 PA12 (io), 46 PA13 (io), 47 VSS (power), 48 VDD (power), 49 PA14 (io), 50 PA15 (io), 51 PC10 (io), 52 PC11 (io), 53 PC12 (io), 54 PD2 (io), 55 PB3 (io), 56 PB4 (io), 57 PB5 (io), 58 PB6 (io), 59 PB7 (io), 60 BOOT0 (in), 61 PB8 (io), 62 PB9 (io), 63 VSS (power), 64 VDD (power)

## STM32F358CCTx
designator *  value STM32F358CCTx
ki_keywords: ARM Cortex-M4 STM32F3 STM32F3x8; ki_description: ARM Cortex-M4 MCU, 256KB flash, 40KB RAM, 72MHz, 1.65-1.95V, 36 GPIO, LQFP-48; ki_fp_filters: LQFP*7x7mm*P0.5mm*; Footprint: Package_QFP:LQFP-48_7x7mm_P0.5mm; Supplier: http://www.st.com/st-web-ui/static/active/en/resource/technical/document/datasheet/DM00100431.pdf
footprint LQFP-48_7x7mm_P0.5mm
pins: 1 VBAT (power), 2 PC13 (io), 3 PC14 (io), 4 PC15 (io), 5 PF0 (in), 6 PF1 (in), 7 NRST (in), 8 VSSA (power), 9 VDDA (power), 10 PA0 (io), 11 PA1 (io), 12 PA2 (io), 13 PA3 (io), 14 PA4 (io), 15 PA5 (io), 16 PA6 (io), 17 PA7 (io), 18 PB0 (io), 19 PB1 (io), 20 NPOR (in), 21 PB10 (io), 22 PB11 (io), 23 VSS (power), 24 VDD (power), 25 PB12 (io), 26 PB13 (io), 27 PB14 (io), 28 PB15 (io), 29 PA8 (io), 30 PA9 (io), 31 PA10 (io), 32 PA11 (io), 33 PA12 (io), 34 PA13 (io), 35 VSS (power), 36 VDD (power), 37 PA14 (io), 38 PA15 (io), 39 PB3 (io), 40 PB4 (io), 41 PB5 (io), 42 PB6 (io), 43 PB7 (io), 44 BOOT0 (in), 45 PB8 (io), 46 PB9 (io), 47 VSS (power), 48 VDD (power)

## STM32F358RCTx
designator *  value STM32F358RCTx
ki_keywords: ARM Cortex-M4 STM32F3 STM32F3x8; ki_description: ARM Cortex-M4 MCU, 256KB flash, 40KB RAM, 72MHz, 1.65-1.95V, 51 GPIO, LQFP-64; ki_fp_filters: LQFP*10x10mm*P0.5mm*; Footprint: Package_QFP:LQFP-64_10x10mm_P0.5mm; Supplier: http://www.st.com/st-web-ui/static/active/en/resource/technical/document/datasheet/DM00100431.pdf
footprint LQFP-64_10x10mm_P0.5mm
pins: 1 VBAT (power), 2 PC13 (io), 3 PC14 (io), 4 PC15 (io), 5 PF0 (in), 6 PF1 (in), 7 NRST (in), 8 PC0 (io), 9 PC1 (io), 10 PC2 (io), 11 PC3 (io), 12 VSSA (power), 13 VDDA (power), 14 PA0 (io), 15 PA1 (io), 16 PA2 (io), 17 PA3 (io), 18 PF4 (io), 19 VDD (power), 20 PA4 (io), 21 PA5 (io), 22 PA6 (io), 23 PA7 (io), 24 PC4 (io), 25 PC5 (io), 26 PB0 (io), 27 PB1 (io), 28 NPOR (in), 29 PB10 (io), 30 PB11 (io), 31 VSS (power), 32 VDD (power), 33 PB12 (io), 34 PB13 (io), 35 PB14 (io), 36 PB15 (io), 37 PC6 (io), 38 PC7 (io), 39 PC8 (io), 40 PC9 (io), 41 PA8 (io), 42 PA9 (io), 43 PA10 (io), 44 PA11 (io), 45 PA12 (io), 46 PA13 (io), 47 VSS (power), 48 VDD (power), 49 PA14 (io), 50 PA15 (io), 51 PC10 (io), 52 PC11 (io), 53 PC12 (io), 54 PD2 (io), 55 PB3 (io), 56 PB4 (io), 57 PB5 (io), 58 PB6 (io), 59 PB7 (io), 60 BOOT0 (in), 61 PB8 (io), 62 PB9 (io), 63 VSS (power), 64 VDD (power)

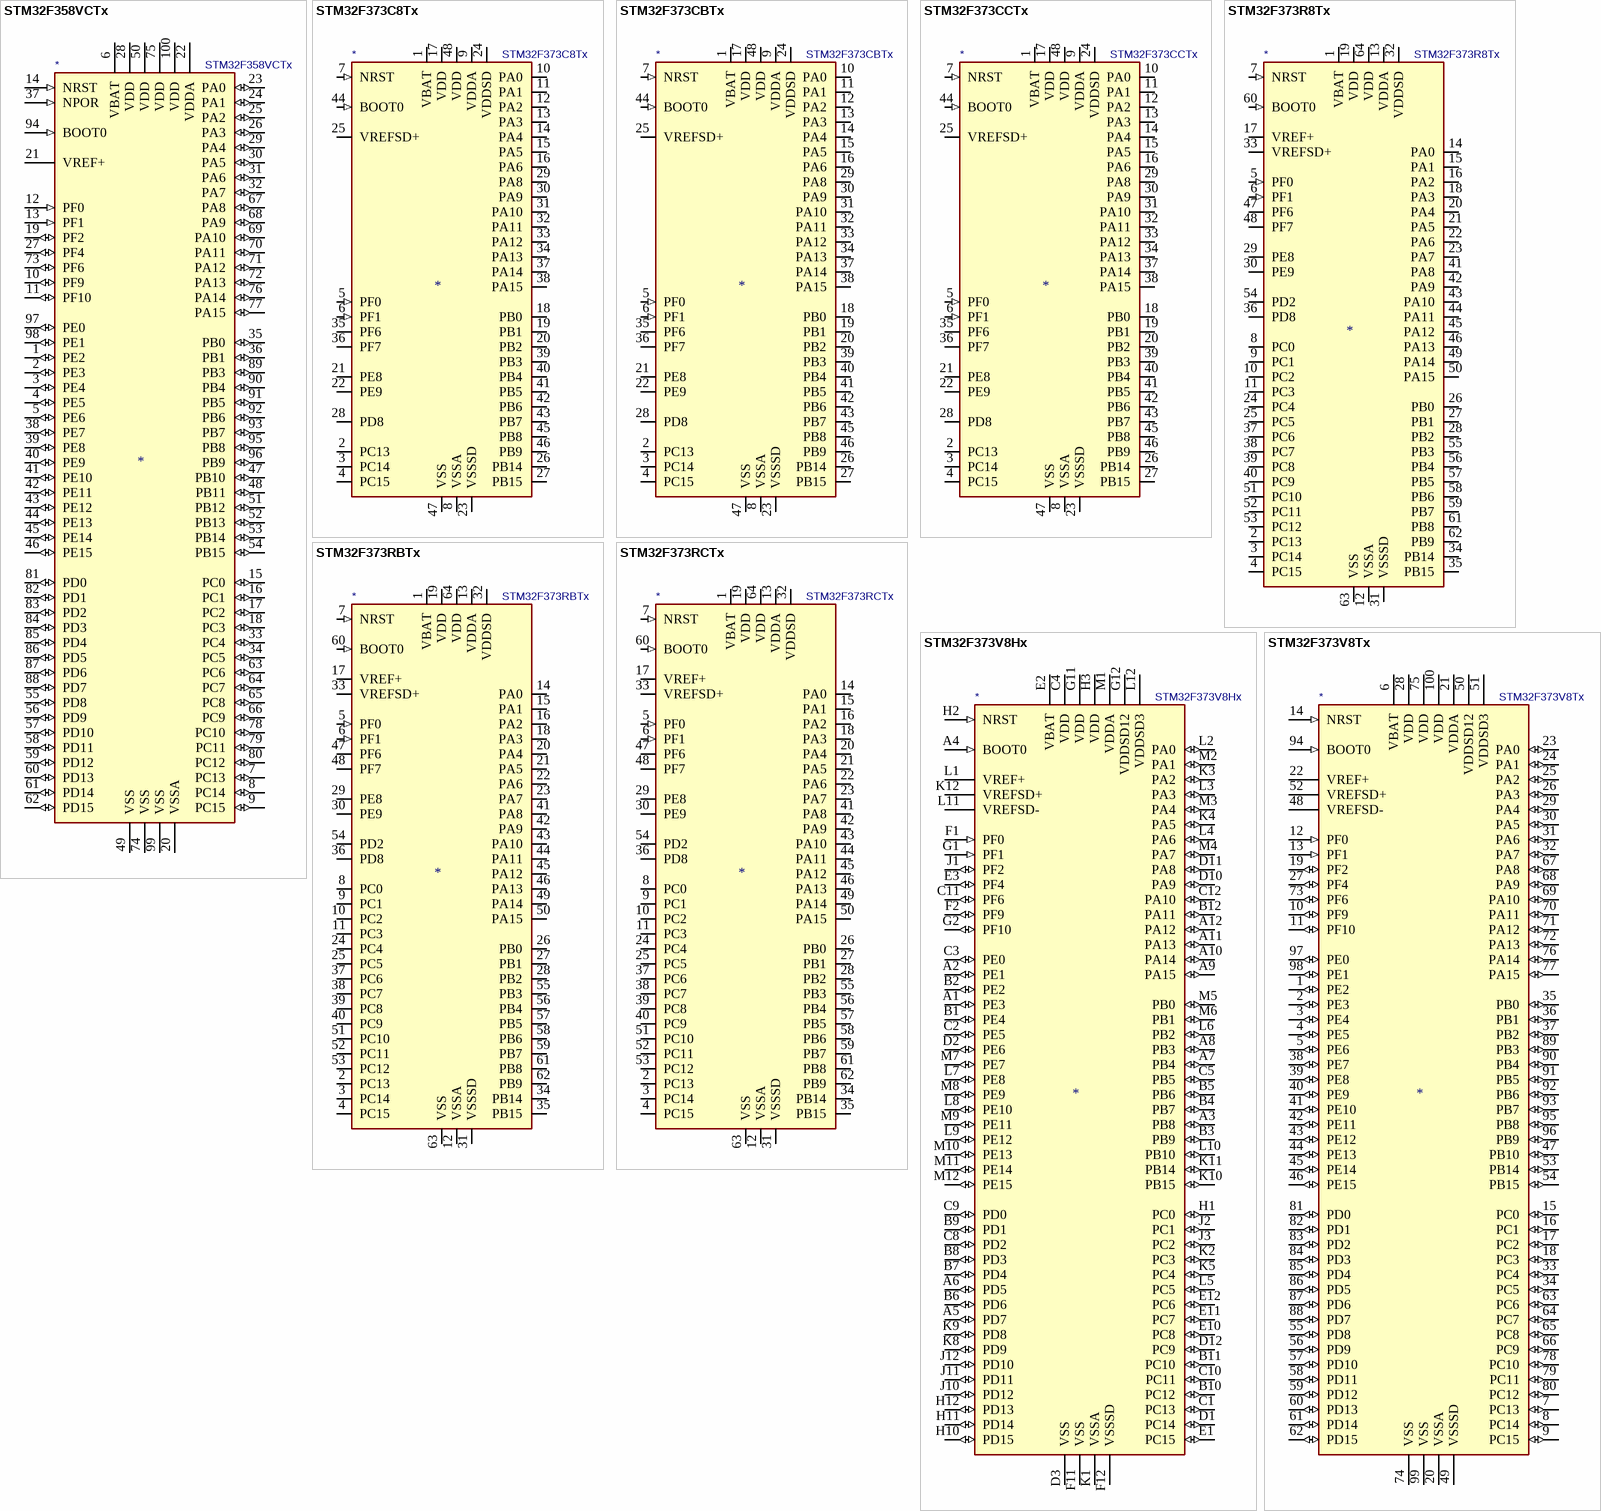
[diagram p9: symbols STM32F358VCTx to STM32F373V8Tx]

## STM32F358VCTx
designator *  value STM32F358VCTx
ki_keywords: ARM Cortex-M4 STM32F3 STM32F3x8; ki_description: ARM Cortex-M4 MCU, 256KB flash, 40KB RAM, 72MHz, 1.65-1.95V, 86 GPIO, LQFP-100; ki_fp_filters: LQFP*14x14mm*P0.5mm*; Footprint: Package_QFP:LQFP-100_14x14mm_P0.5mm; Supplier: http://www.st.com/st-web-ui/static/active/en/resource/technical/document/datasheet/DM00100431.pdf
footprint LQFP-100_14x14mm_P0.5mm
pins: 1 PE2 (io), 2 PE3 (io), 3 PE4 (io), 4 PE5 (io), 5 PE6 (io), 6 VBAT (power), 7 PC13 (io), 8 PC14 (io), 9 PC15 (io), 10 PF9 (io), 11 PF10 (io), 12 PF0 (in), 13 PF1 (in), 14 NRST (in), 15 PC0 (io), 16 PC1 (io), 17 PC2 (io), 18 PC3 (io), 19 PF2 (io), 20 VSSA (power), 21 VREF+ (power), 22 VDDA (power), 23 PA0 (io), 24 PA1 (io), 25 PA2 (io), 26 PA3 (io), 27 PF4 (io), 28 VDD (power), 29 PA4 (io), 30 PA5 (io), 31 PA6 (io), 32 PA7 (io), 33 PC4 (io), 34 PC5 (io), 35 PB0 (io), 36 PB1 (io), 37 NPOR (in), 38 PE7 (io), 39 PE8 (io), 40 PE9 (io), 41 PE10 (io), 42 PE11 (io), 43 PE12 (io), 44 PE13 (io), 45 PE14 (io), 46 PE15 (io), 47 PB10 (io), 48 PB11 (io), 49 VSS (power), 50 VDD (power), 51 PB12 (io), 52 PB13 (io), 53 PB14 (io), 54 PB15 (io), 55 PD8 (io), 56 PD9 (io), 57 PD10 (io), 58 PD11 (io), 59 PD12 (io), 60 PD13 (io), 61 PD14 (io), 62 PD15 (io), 63 PC6 (io), 64 PC7 (io), 65 PC8 (io), 66 PC9 (io), 67 PA8 (io), 68 PA9 (io), 69 PA10 (io), 70 PA11 (io), 71 PA12 (io), 72 PA13 (io), 73 PF6 (io), 74 VSS (power), 75 VDD (power), 76 PA14 (io), 77 PA15 (io), 78 PC10 (io), 79 PC11 (io), 80 PC12 (io), 81 PD0 (io), 82 PD1 (io), 83 PD2 (io), 84 PD3 (io), 85 PD4 (io), 86 PD5 (io), 87 PD6 (io), 88 PD7 (io), 89 PB3 (io), 90 PB4 (io), 91 PB5 (io), 92 PB6 (io), 93 PB7 (io), 94 BOOT0 (in), 95 PB8 (io), 96 PB9 (io), 97 PE0 (io), 98 PE1 (io), 99 VSS (power), 100 VDD (power)